# Altium schematic symbol library HW_ADHERENT_LANECTRL_R1.SchLib: 1635 symbols (part 30 of 31)
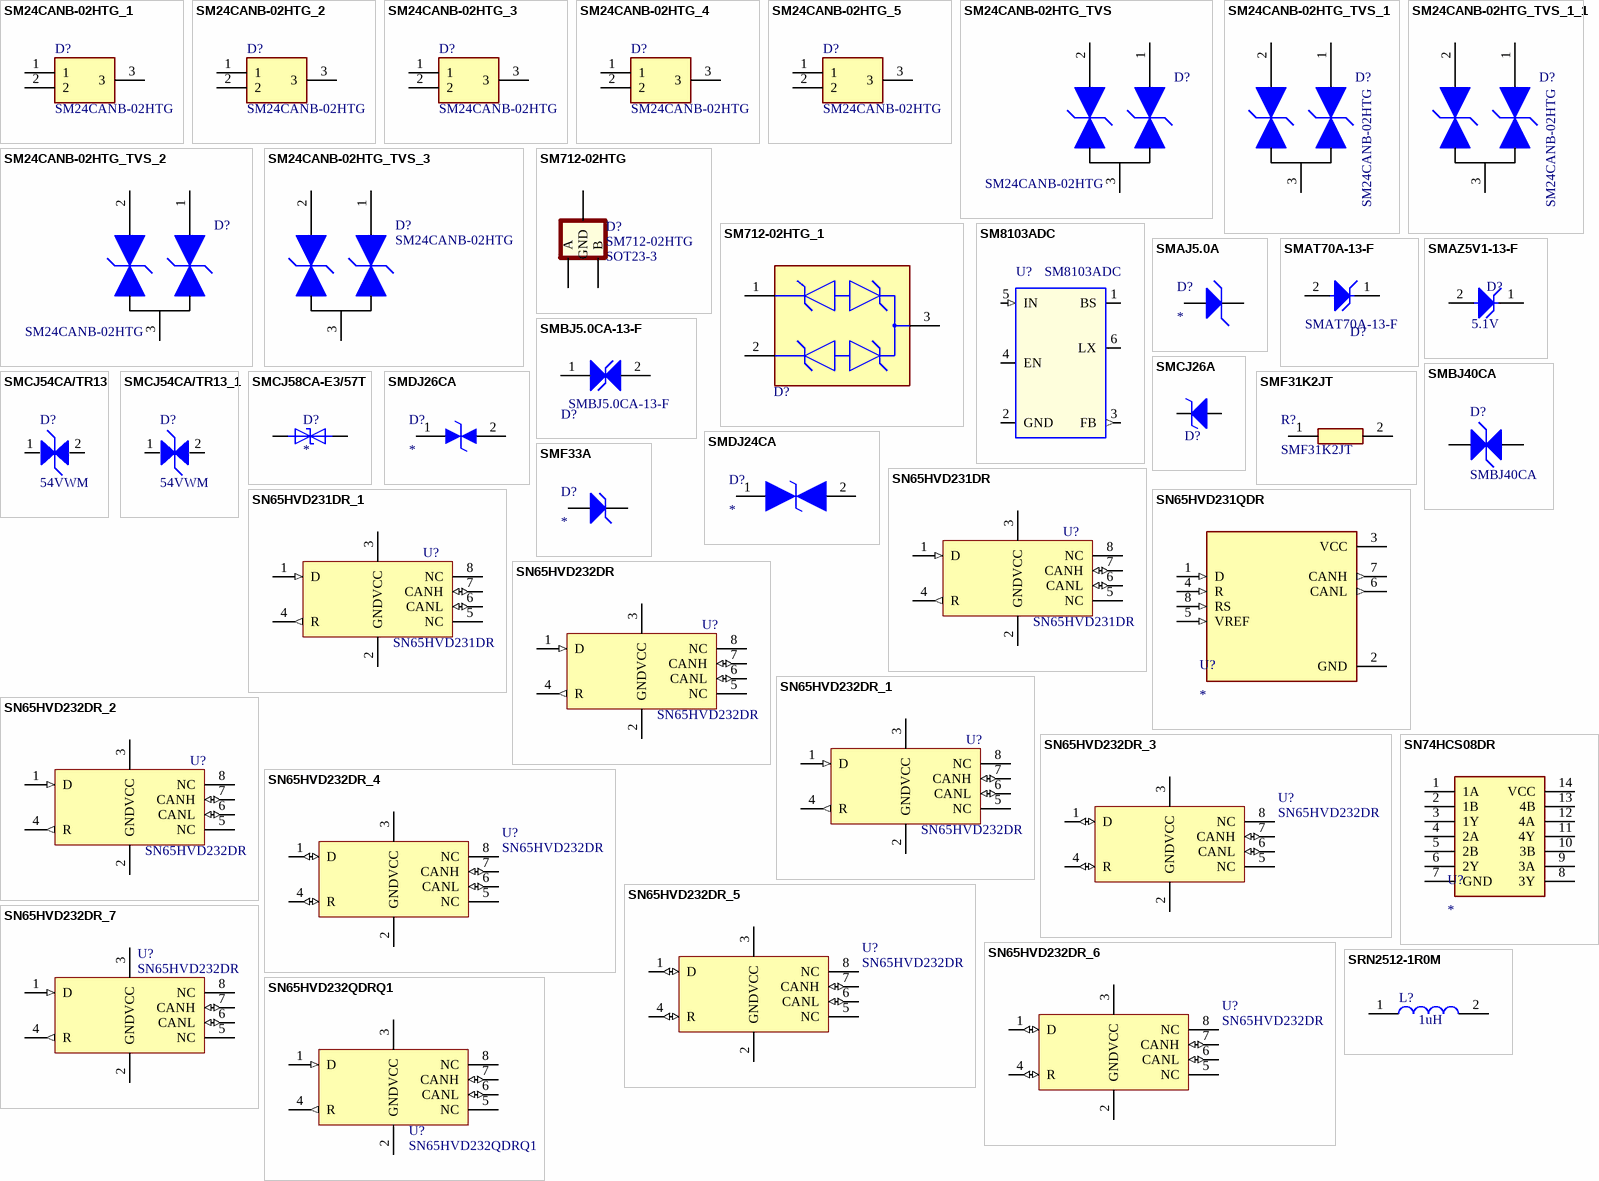
[diagram p80: symbols SM24CANB-02HTG_1 to SRN2512-1R0M]

## SRN2512-1R0M
designator L?, comment value 1uH  (hidden comment: FIXED IND 1UH 3.5A 57 MOHM SMD)
1 µH Semi-Shielded Drum Core, Wirewound Inductor 3.5 A 57mOhm Max 1008 (2520 Metric); Manufacturer Part Number: SRN2512-1R0M; Order Code: Digi: SRN2512-1R0MTR-ND; LCSC Manufacturer Part Number: SRN2512-1R0M; LCSC Part Number: C2041561
footprint SRN25121R0M
pins: 1, 2

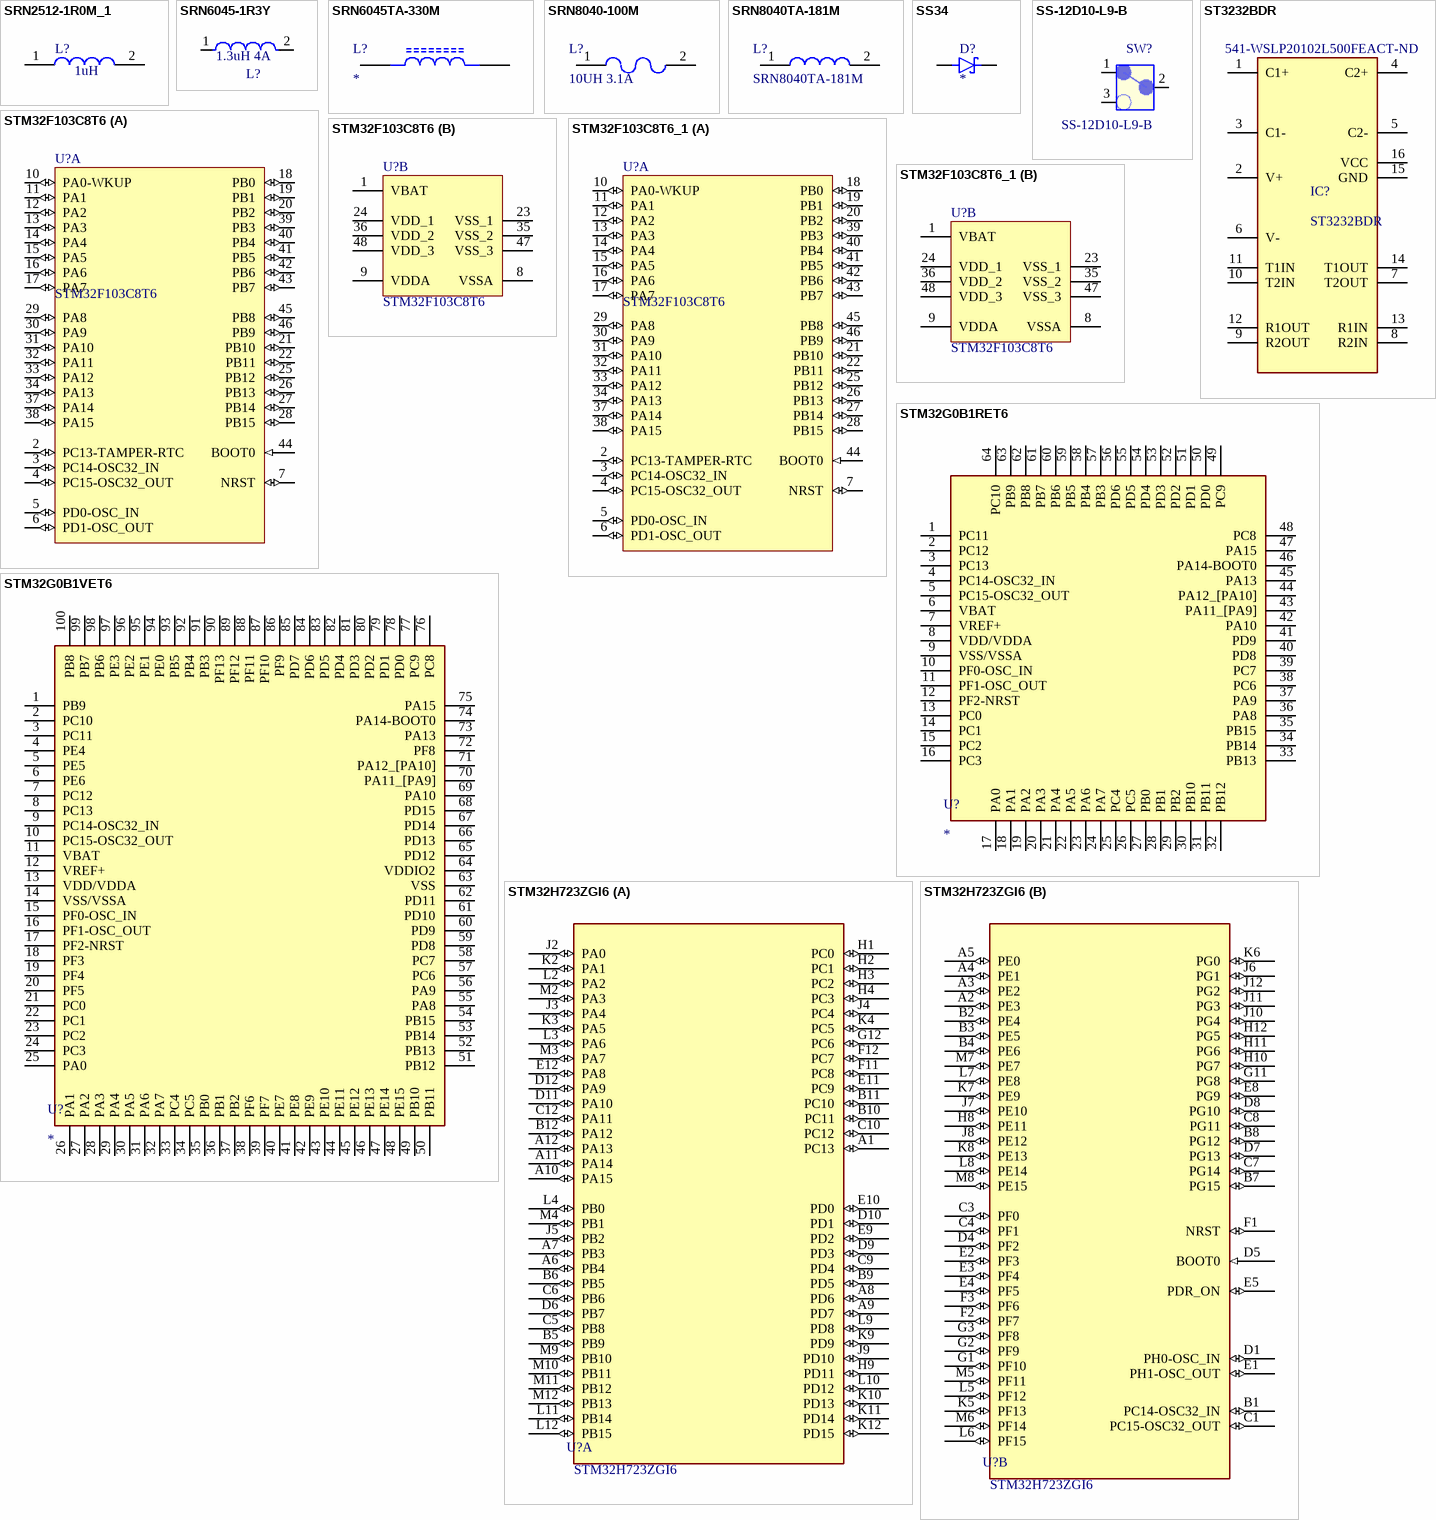
[diagram p44: symbols SRN2512-1R0M_1 to STM32H723ZGI6]

## SRN2512-1R0M_1
designator L?, comment value 1uH  (hidden comment: FIXED IND 1UH 3.5A 57 MOHM SMD)
1 µH Semi-Shielded Drum Core, Wirewound Inductor 3.5 A 57mOhm Max 1008 (2520 Metric); Manufacturer Part Number: SRN2512-1R0M; Order Code: Digi: SRN2512-1R0MTR-ND; LCSC Manufacturer Part Number: SRN2512-1R0M; LCSC Part Number: C2041561
footprint SRN25121R0M
pins: 1, 2

## SRN6045-1R3Y
designator L?, comment value 1.3uH 4A  (hidden comment: FIXED IND 1.3UH 4A 17 MOHM SMD)
1.3 µH Semi-Shielded Drum Core, Wirewound Inductor 4 A 17mOhm Max Nonstandard; Manufacturer Part Number: SRN6045-1R3Y; Order Code: DIGI: SRN6045-1R3YTR-ND
footprint Burns 6x6x4.5mm Inductor
pins: 1, 2

## SRN6045TA-330M
designator L?
33 µH Shielded Drum Core, Wirewound Inductor 1.8 A 145mOhm Nonstandard; Supplier: SRN6045TA-330MDKR-ND - Digi-Reel®
footprint IND_SRN6045TA-330M
pins: 1, 2

## SRN8040-100M
designator L?, comment 10UH 3.1A
10 µH Shielded Drum Core, Wirewound Inductor 3.1 A 50mOhm Max Nonstandard; Manufacturer_Name: Bourns; Manufacturer_Part_Number: SRN8040-100M; Datasheet Link: https://componentsearchengine.com/Datasheets/1/SRN8040-100M.pdf; Height: 4mm; Mouser Part Number: 652-SRN8040-100M; Mouser Price/Stock: https://www.mouser.co.uk/ProductDetail/Bourns/SRN8040-100M?qs=opBjA1TV901MvrktVUEKyA%3D%3D; Arrow Part Number: SRN8040-100M; Arrow Price/Stock: https://www.arrow.com/en/products/srn8040-100m/bourns?region=nac
footprint SRN8040100M
pins: 1, 2

## SRN8040TA-181M
designator L?
FIXED IND 180UH 910MA 490MOHM SM; Manufacturer_Name: Bourns; Datasheet Link: http://www.bourns.com/docs/Product-Datasheets/SRN8040TA.pdf; Height: 4.5mm; Manufacturer_Part_Number: SRN8040TA-181M; Mouser Part Number: 652-SRN8040TA-181M; Mouser Price/Stock: https://www.mouser.co.uk/ProductDetail/Bourns/SRN8040TA-181M?qs=Vt59ZOdFuWYBehGVtqRu4w%3D%3D; Arrow Part Number: SRN8040TA-181M; Arrow Price/Stock: https://www.arrow.com/en/products/srn8040ta-181m/bourns?region=nac
footprint INDPM8080X450N
pins: 1, 2

## SS34
designator D?
Diode Schottky 40 V 3A Surface Mount SMC (DO-214AB); MF: onsemi; MP: SS34; SnapEDA_Link: https://www.snapeda.com/parts/SS34/Onsemi/view-part/?ref=snap; Package: SMC-2 ON Semiconductor; Value: *; Check_prices: https://www.snapeda.com/parts/SS34/Onsemi/view-part/?ref=eda
footprint DIOM7959X265N
pins: A, C K

## SS-12D10-L9-B
designator SW?
slide switch,5A current,vertical; Manufacturer: XKB; Myir P/N: 21203.00010; PCB Footprint: SW-SS-12D10-L9-B; Part Type: Switch; Manufacturer P/N: SS-12D10-L9-B; Reserve Value: SS-12D10-L9-B; Datasheet: SS-12D10-XX-X.pdf
footprint sk_12f14
footprint SW-SS-12D10-L9-B
pins: 1, 2, 3

## ST3232BDR
designator IC?  Supplier Part Number 2: 541-WSLP20102L500FEACT-ND
CURRENT SENSE, RESISTOR, WSLP2010.00251%EAe3 | Vishay Dale WSLP20102L500FEA; Manufacturer: STMicroelectronics; Supplier 1: Digikey; Manufacturer Part Number: ST3232BDR; RoHS: Yes; Category: Interface ICs; Stock 1: 10000; Pricing 1: 2500=0.84878, 5000=0.81734, 12500=0.78591 (USD); ComponentLink1URL: https://datasheet.ciiva.com/5825/1766333-5825810.pdf?src-supplier=Farnell; ComponentLink1Description: https://datasheet.ciiva.com/5825/1766333-5825810.pdf?src-supplier=Farnell; ComponentLink2URL: https://datasheet.ciiva.com/16391/st3232bdr-16391763.pdf?src-supplier=Future+Electronics; ComponentLink2Description: https://datasheet.ciiva.com/16391/st3232bdr-16391763.pdf?src-supplier=Future+Electronics; ComponentLink3URL: https://datasheet.ciiva.com/1701/cd00002253-1701454.pdf?src-supplier=Digikey; ComponentLink3Description: https://datasheet.ciiva.com/1701/cd00002253-1701454.pdf?src-supplier=Digikey; ComponentLink4URL: https://datasheet.ciiva.com/1701/cd00002253-1701455.pdf?src-supplier=Digikey; ComponentLink4Description: https://datasheet.ciiva.com/1701/cd00002253-1701455.pdf?src-supplier=Digikey; ComponentLink5URL: https://datasheet.ciiva.com/1701/cd00002253-1701456.pdf?src-supplier=Digikey; ComponentLink5Description: https://datasheet.ciiva.com/1701/cd00002253-1701456.pdf?src-supplier=Digikey; Supplier Part Number 1: 497-6533-2-ND; Supplier 2: Digikey; Stock 2: 33384; Pricing 2: 1=0.82, 10=0.65, 25=0.5872, 50=0.5284, 100=0.4364, 250=0.41096, 500=0.33268, 1000=0.26907 (USD); RoHS Compliant: Yes
footprint SOIC127P600X175-16N - duplicate
pins: 1 C1+, 2 V+, 3 C1-, 4 C2+, 5 C2-, 6 V-, 7 T2OUT, 8 R2IN, 9 R2OUT, 10 T2IN, 11 T1IN, 12 R1OUT, 13 R1IN, 14 T1OUT, 15 GND, 16 VCC

## STM32F103C8T6
designator U?
ARM Cortex-M3 32-bit MCU, 64 KB Flash, 20 KB Internal RAM, 37 I/Os, 48-pin LQFP, -40 to 85 degC, Tray; Operating Frequency(F) (Processor speed) (MHz): 72; Supply Voltage(Vcc) min (V): 2; FLASH Size (Prog) (kB): 64; Internal RAM Size (kB): 20; I/Os (High Current): 37; A/D Converter: 2x12-bit (10 Channel); Core: ARM Cortex-M3; ComponentLink2Description: Datasheet; ComponentLink3Description: Package Specification; Mounting Technology: Surface Mount; ComponentLink3URL: http://www.st.com/st-web-ui/static/active/en/resource/technical/document/datasheet/DM00058181.pdf; DatasheetVersion: Rev. 16; ComponentLink1URL: http://www.st.com/web/en/home.html; ComponentLink1Description: Manufacturer URL; Manufacturer Part Number: STM32F103C8T6; Packing: Tray; PackageVersion: Rev. 6, 06/2013; PackageReference: LQFP48; PackageDescription: 48-Pin Low Profile Quad Flat Package, 7 x 7 mm Body, 0.5 mm Pitch; ComponentLink2URL: http://www.st.com/st-web-ui/static/active/en/resource/technical/document/datasheet/CD00161566.pdf; LCSC Part Number: C8734; LCSC Manufacturer Part Number: STM32F103C8T6
footprint STM-LQFP48_M
footprint STM-LQFP48_L
footprint STM-LQFP48_N
part A pins: 2 PC13-TAMPER-RTC (io) "PC13-TAMPER-RTC/PC13/TAMPER-RTC", 3 PC14-OSC32_IN (io) "PC14-OSC32_IN/PC14/OSC32_IN", 4 PC15-OSC32_OUT (io) "PC15-OSC32_OUT/PC15/OSC32_OUT", 5 PD0-OSC_IN (io) "PD0/OSC_IN", 6 PD1-OSC_OUT (io) "PD1/OSC_OUT", 7 NRST (io), 10 PA0-WKUP (io) "PA0-WKUP/PA0/WKUP/USART2_CTS/ADC12_IN0/TIM2_CH1_ETR", 11 PA1 (io) "PA1/USART2_RTS/ADC12_IN1/TIM2_CH2", 12 PA2 (io) "PA2/USART2_TX/ADC12_IN2/TIM2_CH3", 13 PA3 (io) "PA3/USART2_RX/ADC12_IN3/TIM2_CH4", 14 PA4 (io) "PA4/SPI1_NSS/USART2_CK/ADC12_IN4", 15 PA5 (io) "PA5/SPI1_SCK/ADC12_IN5", 16 PA6 (io) "PA6/SPI1_MISO/ADC12_IN6/TIM3_CH1/TIM1_BKIN", 17 PA7 (io) "PA7/SPI1_MOSI/ADC12_IN7/TIM3_CH2/TIM1_CH1N", 18 PB0 (io) "PB0/ADC12_IN8/TIM3_CH3/TIM1_CH2N", 19 PB1 (io) "PB1/ADC12_IN9/TIM3_CH4/TIM1_CH3N", 20 PB2 (io) "PB2/BOOT1", 21 PB10 (io) "PB10/I2C2_SCL/USART3_TX/TIM2_CH3", 22 PB11 (io) "PB11/I2C2_SDA/USART3_RX/TIM2_CH4", 25 PB12 (io) "PB12/SPI2_NSS/I2C2_SMBAl/USART3_CK/TIM1_BKIN", 26 PB13 (io) "PB13/SPI2_SCK/USART3_CTS/TIM1_CH1N", 27 PB14 (io) "PB14/SPI2_MISO/USART3_RTS/TIM1_CH2N", 28 PB15 (io) "PB15/SPI2_MOSI/TIM1_CH3N", 29 PA8 (io) "PA8/USART1_CK/TIM1_CH1/MCO", 30 PA9 (io) "PA9/USART1_TX/TIM1_CH2", 31 PA10 (io) "PA10/USART1_RX/TIM1_CH3", 32 PA11 (io) "PA11/USART1_CTS/CANRX/USBDM/TIM1_CH4", 33 PA12 (io) "PA12/USART1_RTS/CANTX/USBDP/TIM1_ETR", 34 PA13 (io) "PA13/JTMS/SWDIO", 37 PA14 (io) "PA14/JTCK/SWCLK", 38 PA15 (io) "PA15/JTDI/TIM2_CH1_ETR/SPI1_NSS", 39 PB3 (io) "PB3/JTDO/TIM2_CH2/TRACESWO/SPI1_SCK", 40 PB4 (io) "PB4/NJTRST/TIM3_CH1/SPI1_MISO", 41 PB5 (io) "PB5/I2C1_SMBAI/TIM3_CH2/SPI1_MOSI", 42 PB6 (io) "PB6/I2C1_SCL/TIM4_CH1/USART1_TX", 43 PB7 (io) "PB7/I2C1_SDA/TIM4_CH2/USART1_RX", 44 BOOT0 (in), 45 PB8 (io) "PB8/TIM4_CH3/I2C1_SCL/CANRX", 46 PB9 (io) "PB9/TIM4_CH4/I2C1_SDA/CANTX"
part B pins: 1 VBAT (power), 8 VSSA, 9 VDDA (power), 23 VSS_1, 24 VDD_1 (power), 35 VSS_2, 36 VDD_2 (power), 47 VSS_3, 48 VDD_3 (power)

## STM32F103C8T6_1
designator U?, comment STM32F103C8T6
ARM Cortex-M3 32-bit MCU, 64 KB Flash, 20 KB Internal RAM, 37 I/Os, 48-pin LQFP, -40 to 85 degC, Tray; Operating Frequency(F) (Processor speed) (MHz): 72; Supply Voltage(Vcc) min (V): 2; FLASH Size (Prog) (kB): 64; Internal RAM Size (kB): 20; I/Os (High Current): 37; A/D Converter: 2x12-bit (10 Channel); Core: ARM Cortex-M3; ComponentLink2Description: Datasheet; ComponentLink3Description: Package Specification; Mounting Technology: Surface Mount; ComponentLink3URL: http://www.st.com/st-web-ui/static/active/en/resource/technical/document/datasheet/DM00058181.pdf; DatasheetVersion: Rev. 16; ComponentLink1URL: http://www.st.com/web/en/home.html; ComponentLink1Description: Manufacturer URL; Manufacturer Part Number: STM32F103C8T6; Packing: Tray; PackageVersion: Rev. 6, 06/2013; PackageReference: LQFP48; PackageDescription: 48-Pin Low Profile Quad Flat Package, 7 x 7 mm Body, 0.5 mm Pitch; ComponentLink2URL: http://www.st.com/st-web-ui/static/active/en/resource/technical/document/datasheet/CD00161566.pdf; LCSC Part Number: C8734; LCSC Manufacturer Part Number: STM32F103C8T6
footprint STM-LQFP48_M
footprint STM-LQFP48_L
footprint STM-LQFP48_N
part A pins: 2 PC13-TAMPER-RTC (io) "PC13-TAMPER-RTC/PC13/TAMPER-RTC", 3 PC14-OSC32_IN (io) "PC14-OSC32_IN/PC14/OSC32_IN", 4 PC15-OSC32_OUT (io) "PC15-OSC32_OUT/PC15/OSC32_OUT", 5 PD0-OSC_IN (io) "PD0/OSC_IN", 6 PD1-OSC_OUT (io) "PD1/OSC_OUT", 7 NRST (io), 10 PA0-WKUP (io) "PA0-WKUP/PA0/WKUP/USART2_CTS/ADC12_IN0/TIM2_CH1_ETR", 11 PA1 (io) "PA1/USART2_RTS/ADC12_IN1/TIM2_CH2", 12 PA2 (io) "PA2/USART2_TX/ADC12_IN2/TIM2_CH3", 13 PA3 (io) "PA3/USART2_RX/ADC12_IN3/TIM2_CH4", 14 PA4 (io) "PA4/SPI1_NSS/USART2_CK/ADC12_IN4", 15 PA5 (io) "PA5/SPI1_SCK/ADC12_IN5", 16 PA6 (io) "PA6/SPI1_MISO/ADC12_IN6/TIM3_CH1/TIM1_BKIN", 17 PA7 (io) "PA7/SPI1_MOSI/ADC12_IN7/TIM3_CH2/TIM1_CH1N", 18 PB0 (io) "PB0/ADC12_IN8/TIM3_CH3/TIM1_CH2N", 19 PB1 (io) "PB1/ADC12_IN9/TIM3_CH4/TIM1_CH3N", 20 PB2 (io) "PB2/BOOT1", 21 PB10 (io) "PB10/I2C2_SCL/USART3_TX/TIM2_CH3", 22 PB11 (io) "PB11/I2C2_SDA/USART3_RX/TIM2_CH4", 25 PB12 (io) "PB12/SPI2_NSS/I2C2_SMBAl/USART3_CK/TIM1_BKIN", 26 PB13 (io) "PB13/SPI2_SCK/USART3_CTS/TIM1_CH1N", 27 PB14 (io) "PB14/SPI2_MISO/USART3_RTS/TIM1_CH2N", 28 PB15 (io) "PB15/SPI2_MOSI/TIM1_CH3N", 29 PA8 (io) "PA8/USART1_CK/TIM1_CH1/MCO", 30 PA9 (io) "PA9/USART1_TX/TIM1_CH2", 31 PA10 (io) "PA10/USART1_RX/TIM1_CH3", 32 PA11 (io) "PA11/USART1_CTS/CANRX/USBDM/TIM1_CH4", 33 PA12 (io) "PA12/USART1_RTS/CANTX/USBDP/TIM1_ETR", 34 PA13 (io) "PA13/JTMS/SWDIO", 37 PA14 (io) "PA14/JTCK/SWCLK", 38 PA15 (io) "PA15/JTDI/TIM2_CH1_ETR/SPI1_NSS", 39 PB3 (io) "PB3/JTDO/TIM2_CH2/TRACESWO/SPI1_SCK", 40 PB4 (io) "PB4/NJTRST/TIM3_CH1/SPI1_MISO", 41 PB5 (io) "PB5/I2C1_SMBAI/TIM3_CH2/SPI1_MOSI", 42 PB6 (io) "PB6/I2C1_SCL/TIM4_CH1/USART1_TX", 43 PB7 (io) "PB7/I2C1_SDA/TIM4_CH2/USART1_RX", 44 BOOT0 (in), 45 PB8 (io) "PB8/TIM4_CH3/I2C1_SCL/CANRX", 46 PB9 (io) "PB9/TIM4_CH4/I2C1_SDA/CANTX"
part B pins: 1 VBAT (power), 8 VSSA, 9 VDDA (power), 23 VSS_1, 24 VDD_1 (power), 35 VSS_2, 36 VDD_2 (power), 47 VSS_3, 48 VDD_3 (power)

## STM32G0B1RET6
designator U?
ARM® Cortex®-M0+ STM32G0 Microcontroller IC 32-Bit 64MHz 512KB (512K x 8) FLASH 64-LQFP (10x10); MPN: STM32G0B1RET6; Supplier: 497-STM32G0B1RET6-ND
footprint QFP50P1200X1200X160-64N
pins: 1 PC11, 2 PC12, 3 PC13, 4 PC14-OSC32_IN, 5 PC15-OSC32_OUT, 6 VBAT, 7 VREF+, 8 VDD/VDDA, 9 VSS/VSSA, 10 PF0-OSC_IN, 11 PF1-OSC_OUT, 12 PF2-NRST, 13 PC0, 14 PC1, 15 PC2, 16 PC3, 17 PA0, 18 PA1, 19 PA2, 20 PA3, 21 PA4, 22 PA5, 23 PA6, 24 PA7, 25 PC4, 26 PC5, 27 PB0, 28 PB1, 29 PB2, 30 PB10, 31 PB11, 32 PB12, 33 PB13, 34 PB14, 35 PB15, 36 PA8, 37 PA9, 38 PC6, 39 PC7, 40 PD8, 41 PD9, 42 PA10, 43 PA11_[PA9], 44 PA12_[PA10], 45 PA13, 46 PA14-BOOT0, 47 PA15, 48 PC8, 49 PC9, 50 PD0, 51 PD1, 52 PD2, 53 PD3, 54 PD4, 55 PD5, 56 PD6, 57 PB3, 58 PB4, 59 PB5, 60 PB6, 61 PB7, 62 PB8, 63 PB9, 64 PC10

## STM32G0B1VET6
designator U?
ARM Mikrodenetleyiciler - MCU Mainstream Arm Cortex-M0+ 32-bit MCU, up to 512KB Flash, 144KB RAM; MPN: STM32G0B1VET6
footprint QFP50P1600X1600X160-100N/STM32G0B1VET6
pins: 1 PB9, 2 PC10, 3 PC11, 4 PE4, 5 PE5, 6 PE6, 7 PC12, 8 PC13, 9 PC14-OSC32_IN, 10 PC15-OSC32_OUT, 11 VBAT, 12 VREF+, 13 VDD/VDDA, 14 VSS/VSSA, 15 PF0-OSC_IN, 16 PF1-OSC_OUT, 17 PF2-NRST, 18 PF3, 19 PF4, 20 PF5, 21 PC0, 22 PC1, 23 PC2, 24 PC3, 25 PA0, 26 PA1, 27 PA2, 28 PA3, 29 PA4, 30 PA5, 31 PA6, 32 PA7, 33 PC4, 34 PC5, 35 PB0, 36 PB1, 37 PB2, 38 PF6, 39 PF7, 40 PE7, 41 PE8, 42 PE9, 43 PE10, 44 PE11, 45 PE12, 46 PE13, 47 PE14, 48 PE15, 49 PB10, 50 PB11, 51 PB12, 52 PB13, 53 PB14, 54 PB15, 55 PA8, 56 PA9, 57 PC6, 58 PC7, 59 PD8, 60 PD9, 61 PD10, 62 PD11, 63 VSS, 64 VDDIO2, 65 PD12, 66 PD13, 67 PD14, 68 PD15, 69 PA10, 70 PA11_[PA9], 71 PA12_[PA10], 72 PF8, 73 PA13, 74 PA14-BOOT0, 75 PA15, 76 PC8, 77 PC9, 78 PD0, 79 PD1, 80 PD2, 81 PD3, 82 PD4, 83 PD5, 84 PD6, 85 PD7, 86 PF9, 87 PF10, 88 PF11, 89 PF12, 90 PF13, 91 PB3, 92 PB4, 93 PB5, 94 PE0, 95 PE1, 96 PE2, 97 PE3, 98 PB6, 99 PB7, 100 PB8

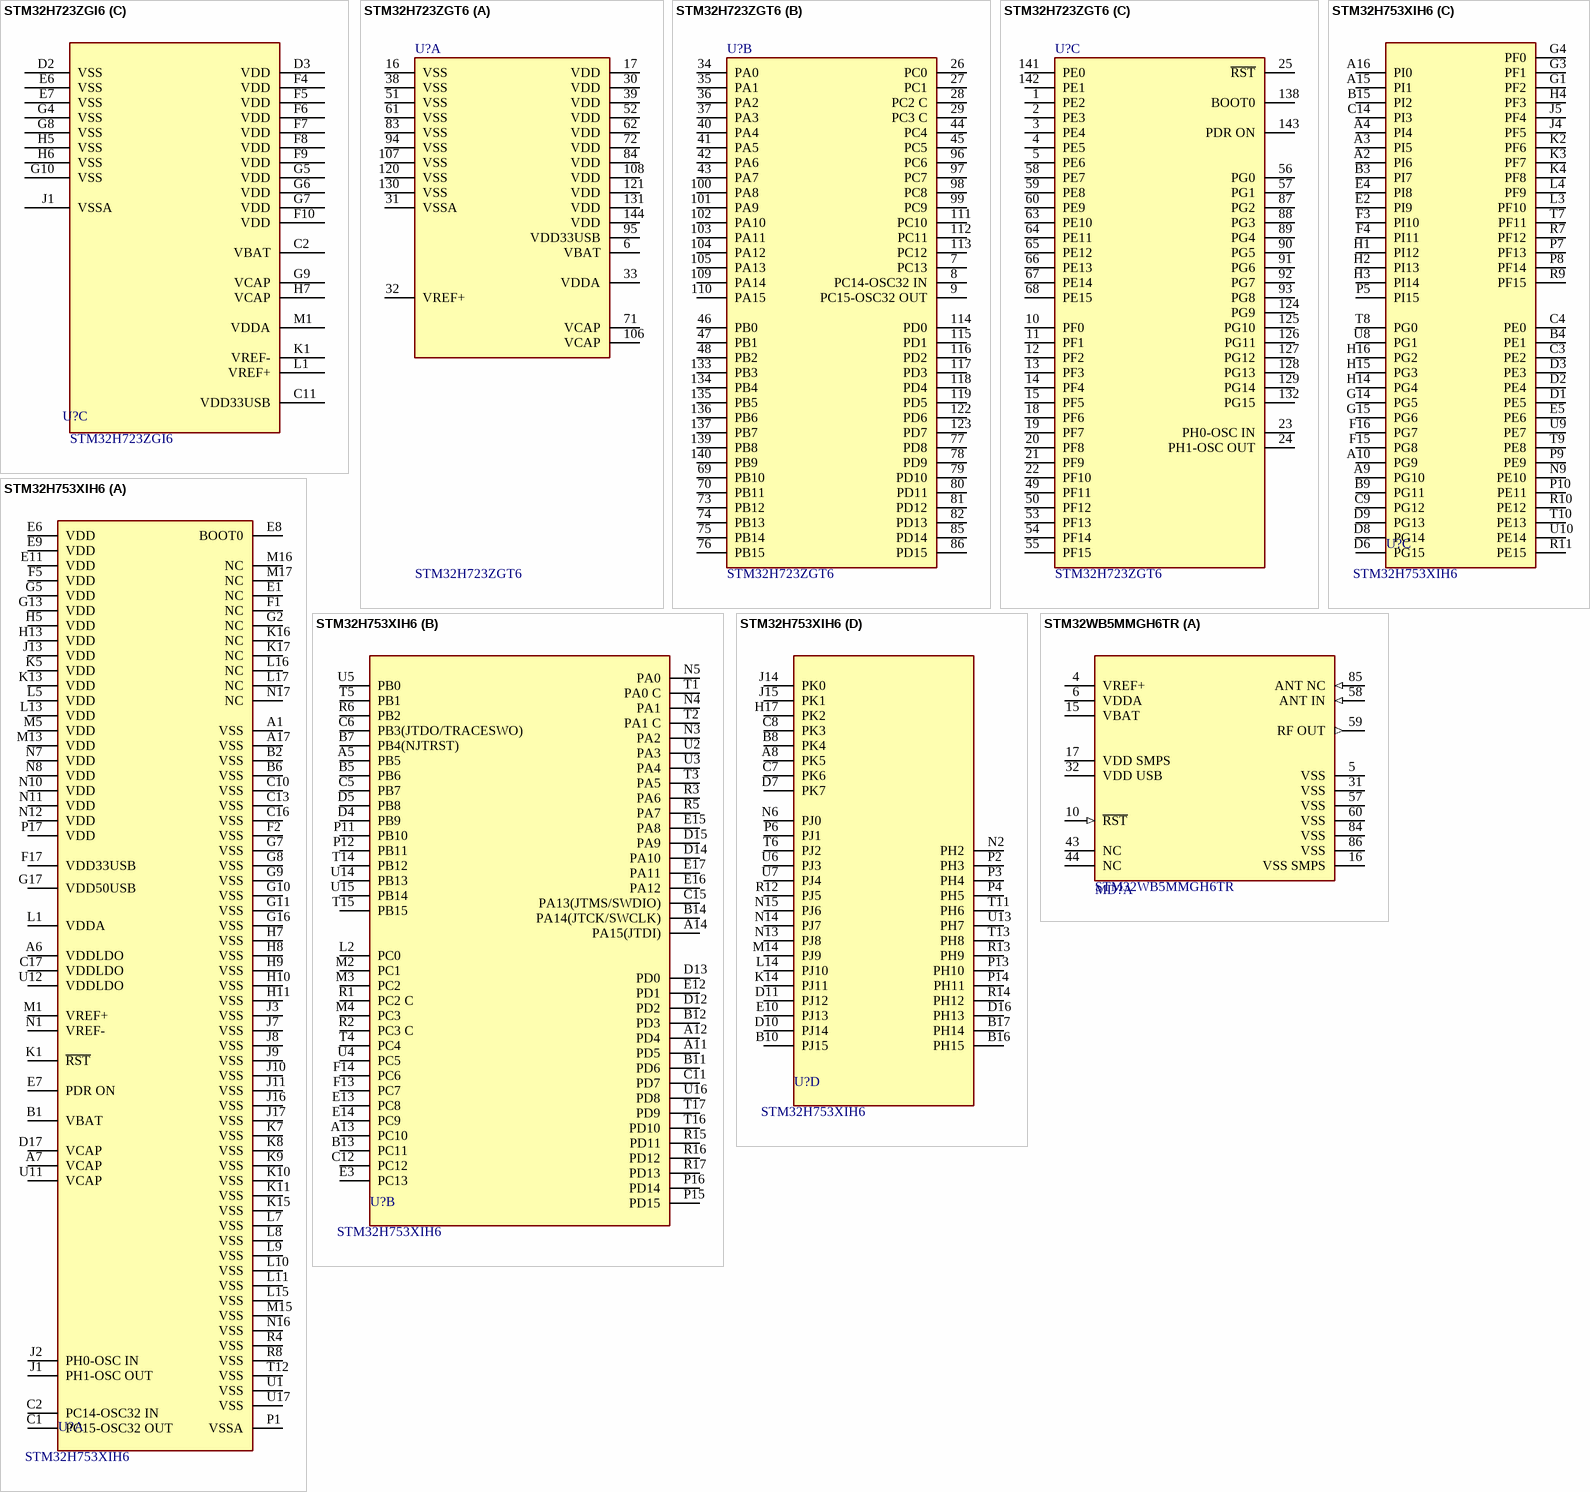
[diagram p45: symbols STM32H723ZGI6 to STM32WB5MMGH6TR]

## STM32H723ZGI6
designator U?, comment Manufacturer Part Number: STM32H723ZGI6  (hidden comment: IC MCU 32BIT 1MB FLASH 144UFBGA)
ARM® Cortex®-M7 STM32H7 Microcontroller IC 32-Bit Single-Core 550MHz 1MB (1M x 8) FLASH 144-UFBGA (7x7); Order Code: DIGI: 497-STM32H723ZGI6-ND
footprint UFBGA_144_7x7
part A pins: A1 PC13 (io), A6 PB4 (io), A7 PB3 (io), A8 PD6 (io), A9 PD7 (io), A10 PA15 (io), A11 PA14 (io), A12 PA13 (io), B5 PB9 (io), B6 PB5 (io), B9 PD5 (io), B10 PC11 (io), B11 PC10 (io), B12 PA12 (io), C5 PB8 (io), C6 PB6 (io), C9 PD4 (io), C10 PC12 (io), C12 PA11 (io), D6 PB7 (io), D9 PD3 (io), D10 PD1 (io), D11 PA10 (io), D12 PA9 (io), E9 PD2 (io), E10 PD0 (io), E11 PC9 (io), E12 PA8 (io), F11 PC8 (io), F12 PC7 (io), G12 PC6 (io), H1 PC0 (io), H2 PC1 (io), H3 PC2 (io), H4 PC3 (io), H9 PD11 (io), J2 PA0 (io), J3 PA4 (io), J4 PC4 (io), J5 PB2 (io), J9 PD10 (io), K2 PA1 (io), K3 PA5 (io), K4 PC5 (io), K9 PD9 (io), K10 PD13 (io), K11 PD14 (io), K12 PD15 (io), L2 PA2 (io), L3 PA6 (io), L4 PB0 (io), L9 PD8 (io), L10 PD12 (io), L11 PB14 (io), L12 PB15 (io), M2 PA3 (io), M3 PA7 (io), M4 PB1 (io), M9 PB10 (io), M10 PB11 (io), M11 PB12 (io), M12 PB13 (io)
part B pins: A2 PE3 (io), A3 PE2 (io), A4 PE1 (io), A5 PE0 (io), B1 PC14-OSC32_IN (io), B2 PE4 (io), B3 PE5 (io), B4 PE6 (io), B7 PG15 (io), B8 PG12 (io), C1 PC15-OSC32_OUT (io), C3 PF0 (io), C4 PF1 (io), C7 PG14 (io), C8 PG11 (io), D1 PH0-OSC_IN (io), D4 PF2 (io), D5 BOOT0 (in), D7 PG13 (io), D8 PG10 (io), E1 PH1-OSC_OUT (io), E2 PF3 (io), E3 PF4 (io), E4 PF5 (io), E5 PDR_ON (io), E8 PG9 (io), F1 NRST (io), F2 PF7 (io), F3 PF6 (io), G1 PF10 (io), G2 PF9 (io), G3 PF8 (io), G11 PG8 (io), H8 PE11 (io), H10 PG7 (io), H11 PG6 (io), H12 PG5 (io), J6 PG1 (io), J7 PE10 (io), J8 PE12 (io), J10 PG4 (io), J11 PG3 (io), J12 PG2 (io), K5 PF13 (io), K6 PG0 (io), K7 PE9 (io), K8 PE13 (io), L5 PF12 (io), L6 PF15 (io), L7 PE8 (io), L8 PE14 (io), M5 PF11 (io), M6 PF14 (io), M7 PE7 (io), M8 PE15 (io)
part C pins: C2 VBAT (power), C11 VDD33USB (power), D2 VSS (power), D3 VDD (power), E6 VSS (power), E7 VSS (power), F4 VDD (power), F5 VDD (power), F6 VDD (power), F7 VDD (power), F8 VDD (power), F9 VDD (power), F10 VDD (power), G4 VSS (power), G5 VDD (power), G6 VDD (power), G7 VDD (power), G8 VSS (power), G9 VCAP (power), G10 VSS (power), H5 VSS (power), H6 VSS (power), H7 VCAP (power), J1 VSSA (power), K1 VREF- (power), L1 VREF+ (power), M1 VDDA (power)

## STM32H723ZGT6
designator U?
ARM® Cortex®-M7 STM32H7 Microcontroller IC 32-Bit Single-Core 550MHz 1MB (1M x 8) FLASH 144-LQFP (20x20); Manufacturer Name: STMicroelectronics; Manufacturer Part Number: STM32H723ZGT6
footprint STMicroelectronics_LQFP144-1A_IPC_C
part A pins: 6 VBAT (power), 16 VSS (power), 17 VDD (power), 30 VDD (power), 31 VSSA (power), 32 VREF+ (power), 33 VDDA (power), 38 VSS (power), 39 VDD (power), 51 VSS (power), 52 VDD (power), 61 VSS (power), 62 VDD (power), 71 VCAP (power), 72 VDD (power), 83 VSS (power), 84 VDD (power), 94 VSS (power), 95 VDD33USB (power), 106 VCAP (power), 107 VSS (power), 108 VDD (power), 120 VSS (power), 121 VDD (power), 130 VSS (power), 131 VDD (power), 144 VDD (power)
part B pins: 7 PC13, 8 PC14-OSC32 IN, 9 PC15-OSC32 OUT, 26 PC0, 27 PC1, 28 PC2 C, 29 PC3 C, 34 PA0, 35 PA1, 36 PA2, 37 PA3, 40 PA4, 41 PA5, 42 PA6, 43 PA7, 44 PC4, 45 PC5, 46 PB0, 47 PB1, 48 PB2, 69 PB10, 70 PB11, 73 PB12, 74 PB13, 75 PB14, 76 PB15, 77 PD8, 78 PD9, 79 PD10, 80 PD11, 81 PD12, 82 PD13, 85 PD14, 86 PD15, 96 PC6, 97 PC7, 98 PC8, 99 PC9, 100 PA8, 101 PA9, 102 PA10, 103 PA11, 104 PA12, 105 PA13, 109 PA14, 110 PA15, 111 PC10, 112 PC11, 113 PC12, 114 PD0, 115 PD1, 116 PD2, 117 PD3, 118 PD4, 119 PD5, 122 PD6, 123 PD7, 133 PB3, 134 PB4, 135 PB5, 136 PB6, 137 PB7, 139 PB8, 140 PB9
part C pins: 1 PE2, 2 PE3, 3 PE4, 4 PE5, 5 PE6, 10 PF0, 11 PF1, 12 PF2, 13 PF3, 14 PF4, 15 PF5, 18 PF6, 19 PF7, 20 PF8, 21 PF9, 22 PF10, 23 PH0-OSC IN, 24 PH1-OSC OUT, 25 ~{RST}, 49 PF11, 50 PF12, 53 PF13, 54 PF14, 55 PF15, 56 PG0, 57 PG1, 58 PE7, 59 PE8, 60 PE9, 63 PE10, 64 PE11, 65 PE12, 66 PE13, 67 PE14, 68 PE15, 87 PG2, 88 PG3, 89 PG4, 90 PG5, 91 PG6, 92 PG7, 93 PG8, 124 PG9, 125 PG10, 126 PG11, 127 PG12, 128 PG13, 129 PG14, 132 PG15, 138 BOOT0, 141 PE0, 142 PE1, 143 PDR ON

## STM32H753XIH6
designator U?, comment Manufacturer Part Number: STM32H753XIH6  (hidden comment: IC MCU 32BIT 2MB FLASH TFBGA)
ARM® Cortex®-M7 STM32H7 Microcontroller IC 32-Bit Single-Core 480MHz 2MB (2M x 8) FLASH 240+25-TFBGA (14x14); Order Code: DIGI: 497-18567-ND
footprint STMicroelectronics_TFBGA240+25-A07U_IPC_A
footprint STMicroelectronics_TFBGA240+25-A07U_IPC_B
footprint STMicroelectronics_TFBGA240+25-A07U_IPC_C
footprint STMicroelectronics_TFBGA240+25-A07U_MFG
part A pins: A1 VSS, A6 VDDLDO, A7 VCAP, A17 VSS, B1 VBAT, B2 VSS, B6 VSS, C1 PC15-OSC32 OUT, C2 PC14-OSC32 IN, C10 VSS, C13 VSS, C16 VSS, C17 VDDLDO, D17 VCAP, E1 NC, E6 VDD, E7 PDR ON, E8 BOOT0, E9 VDD, E11 VDD, F1 NC, F2 VSS, F5 VDD, F17 VDD33USB, G2 NC, G5 VDD, G7 VSS, G8 VSS, G9 VSS, G10 VSS, G11 VSS, G13 VDD, G16 VSS, G17 VDD50USB, H5 VDD, H7 VSS, H8 VSS, H9 VSS, H10 VSS, H11 VSS, H13 VDD, J1 PH1-OSC OUT, J2 PH0-OSC IN, J3 VSS, J7 VSS, J8 VSS, J9 VSS, J10 VSS, J11 VSS, J13 VDD, J16 VSS, J17 VSS, K1 ~{RST}, K5 VDD, K7 VSS, K8 VSS, K9 VSS, K10 VSS, K11 VSS, K13 VDD, K15 VSS, K16 NC, K17 NC, L1 VDDA, L5 VDD, L7 VSS, L8 VSS, L9 VSS, L10 VSS, L11 VSS, L13 VDD, L15 VSS, L16 NC, L17 NC, M1 VREF+, M5 VDD, M13 VDD, M15 VSS, M16 NC, M17 NC, N1 VREF-, N7 VDD, N8 VDD, N10 VDD, N11 VDD, N12 VDD, N16 VSS, N17 NC, P1 VSSA, P17 VDD, R4 VSS, R8 VSS, T12 VSS, U1 VSS, U11 VCAP, U12 VDDLDO, U17 VSS
part B pins: A5 PB5, A11 PD5, A12 PD4, A13 PC10, A14 PA15(JTDI), B5 PB6, B7 PB4(NJTRST), B11 PD6, B12 PD3, B13 PC11, B14 PA14(JTCK/SWCLK), C5 PB7, C6 PB3(JTDO/TRACESWO), C11 PD7, C12 PC12, C15 PA13(JTMS/SWDIO), D4 PB9, D5 PB8, D12 PD2, D13 PD0, D14 PA10, D15 PA9, E3 PC13, E12 PD1, E13 PC8, E14 PC9, E15 PA8, E16 PA12, E17 PA11, F13 PC7, F14 PC6, L2 PC0, M2 PC1, M3 PC2, M4 PC3, N3 PA2, N4 PA1, N5 PA0, P11 PB10, P12 PB11, P15 PD15, P16 PD14, R1 PC2 C, R2 PC3 C, R3 PA6, R5 PA7, R6 PB2, R15 PD11, R16 PD12, R17 PD13, T1 PA0 C, T2 PA1 C, T3 PA5, T4 PC4, T5 PB1, T14 PB12, T15 PB15, T16 PD10, T17 PD9, U2 PA3, U3 PA4, U4 PC5, U5 PB0, U14 PB13, U15 PB14, U16 PD8
part C pins: A2 PI6, A3 PI5, A4 PI4, A9 PG10, A10 PG9, A15 PI1, A16 PI0, B3 PI7, B4 PE1, B9 PG11, B15 PI2, C3 PE2, C4 PE0, C9 PG12, C14 PI3, D1 PE5, D2 PE4, D3 PE3, D6 PG15, D8 PG14, D9 PG13, E2 PI9, E4 PI8, E5 PE6, F3 PI10, F4 PI11, F15 PG8, F16 PG7, G1 PF2, G3 PF1, G4 PF0, G14 PG5, G15 PG6, H1 PI12, H2 PI13, H3 PI14, H4 PF3, H14 PG4, H15 PG3, H16 PG2, J4 PF5, J5 PF4, K2 PF6, K3 PF7, K4 PF8, L3 PF10, L4 PF9, N9 PE10, P5 PI15, P7 PF13, P8 PF14, P9 PE9, P10 PE11, R7 PF12, R9 PF15, R10 PE12, R11 PE15, T7 PF11, T8 PG0, T9 PE8, T10 PE13, U8 PG1, U9 PE7, U10 PE14
part D pins: A8 PK5, B8 PK4, B10 PJ15, B16 PH15, B17 PH14, C7 PK6, C8 PK3, D7 PK7, D10 PJ14, D11 PJ12, D16 PH13, E10 PJ13, H17 PK2, J14 PK0, J15 PK1, K14 PJ11, L14 PJ10, M14 PJ9, N2 PH2, N6 PJ0, N13 PJ8, N14 PJ7, N15 PJ6, P2 PH3, P3 PH4, P4 PH5, P6 PJ1, P13 PH10, P14 PH11, R12 PJ5, R13 PH9, R14 PH12, T6 PJ2, T11 PH6, T13 PH8, U6 PJ3, U7 PJ4, U13 PH7

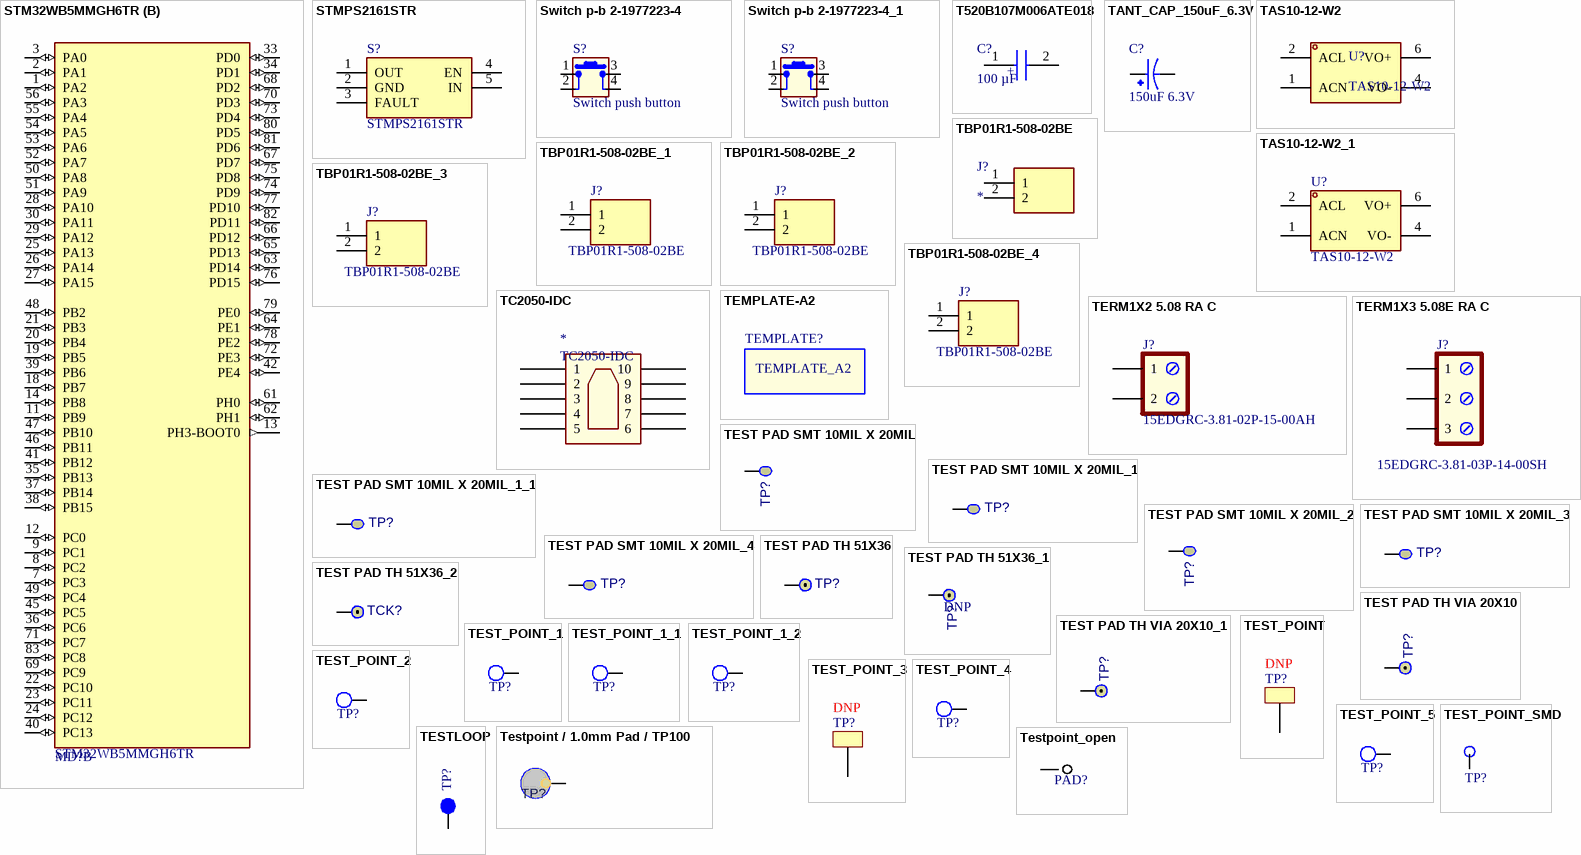
[diagram p46: symbols STM32WB5MMGH6TR to Testpoint_open]

## STM32WB5MMGH6TR
designator MD?, comment Manufacturer Part Number: STM32WB5MMGH6TR  (hidden comment: RF TXRX MODULE BT CHIP SMD)
802.15.4, Bluetooth Bluetooth v5.0, Thread, Zigbee® Transceiver Module 2.4GHz Integrated, Chip Surface Mount; Order Code: DIGI: 497-STM32WB5MMGH6TR-ND
footprint STMicroelectronics_STM32WB5MMGH6TR
part A pins: 4 VREF+ (power), 5 VSS (power), 6 VDDA (power), 10 ~{RST} (in), 15 VBAT (power), 16 VSS SMPS (power), 17 VDD SMPS (power), 31 VSS (power), 32 VDD USB (power), 43 NC, 44 NC, 57 VSS (power), 58 ANT IN (in), 59 RF OUT (out), 60 VSS (power), 84 VSS (power), 85 ANT NC (in), 86 VSS (power)
part B pins: 1 PA2 (io), 2 PA1 (io), 3 PA0 (io), 7 PC3 (io), 8 PC2 (io), 9 PC1 (io), 11 PB9 (io), 12 PC0 (io), 13 PH3-BOOT0 (out), 14 PB8 (io), 18 PB7 (io), 19 PB5 (io), 20 PB4 (io), 21 PB3 (io), 22 PC10 (io), 23 PC11 (io), 24 PC12 (io), 25 PA13 (io), 26 PA14 (io), 27 PA15 (io), 28 PA10 (io), 29 PA12 (io), 30 PA11 (io), 33 PD0 (io), 34 PD1 (io), 35 PB13 (io), 36 PC6 (io), 37 PB14 (io), 38 PB15 (io), 39 PB6 (io), 40 PC13 (io), 41 PB12 (io), 42 PE4 (io), 45 PC5 (io), 46 PB11 (io), 47 PB10 (io), 48 PB2 (io), 49 PC4 (io), 50 PA8 (io), 51 PA9 (io), 52 PA7 (io), 53 PA6 (io), 54 PA5 (io), 55 PA4 (io), 56 PA3 (io), 61 PH0 (io), 62 PH1 (io), 63 PD14 (io), 64 PE1 (io), 65 PD13 (io), 66 PD12 (io), 67 PD7 (io), 68 PD2 (io), 69 PC9 (io), 70 PD3 (io), 71 PC7 (io), 72 PE3 (io), 73 PD4 (io), 74 PD9 (io), 75 PD8 (io), 76 PD15 (io), 77 PD10 (io), 78 PE2 (io), 79 PE0 (io), 80 PD5 (io), 81 PD6 (io), 82 PD11 (io), 83 PC8 (io)

## STMPS2161STR
designator S?
Switch; Manufacturer_Name: STMicroelectronics; Datasheet Link: https://componentsearchengine.com/Datasheets/2/STMPS2161STR.pdf; Height: 1.45mm; Manufacturer_Part_Number: STMPS2161STR
footprint SOT95P280X145-5N
pins: 1 OUT, 2 GND, 3 FAULT, 4 EN, 5 IN

## Switch p-b 2-1977223-4
designator S?, comment value Switch push button  (hidden comment: 2-1977223-4)
SPST-NO; Manufacturer: TE Connectivity ALCOSWITCH Switches; Manufacturer Part Number: 2-1977223-4; Supplier Part Number: 450-2135-1-ND
footprint SMD 6.0X6.0X9.5MM
pins: 1, 2, 3, 4

## Switch p-b 2-1977223-4_1
designator S?, comment value Switch push button  (hidden comment: 2-1977223-4)
SPST-NO; Manufacturer: TE Connectivity ALCOSWITCH Switches; Manufacturer Part Number: 2-1977223-4; Supplier Part Number: 450-2135-1-ND
footprint SMD 6.0X6.0X9.5MM
pins: 1, 2, 3, 4

## T520B107M006ATE018
designator C?, comment 100 µF
100 µF Molded Tantalum Polymer Capacitor 6.3 V 1411 (3528 Metric) 18mOhm @ 100kHz; Manufacturer_Name: KEMET; Manufacturer_Part_Number: T520B107M006ATE018; Datasheet Link: https://content.kemet.com/datasheets/KEM_T2076_T52X-530.pdf; Height: 2mm; Mouser Part Number: 80-T520B107M6ATE18; Mouser Price/Stock: https://www.mouser.co.uk/ProductDetail/KEMET/T520B107M006ATE018?qs=OJGUyRWaYtMV0BsRKcV0Ug%3D%3D; Arrow Part Number: T520B107M006ATE018; Arrow Price/Stock: https://www.arrow.com/en/products/t520b107m006ate018/kemet-corporation?region=nac
footprint T520B
pins: 1 +, 2 -

## TANT_CAP_150uF_6.3V
designator C?, comment value 150uF 6.3V  (hidden comment: CAP TANT POLY 150UF 6.3V 1411)
150 µF Molded Tantalum Polymer Capacitor 6.3 V 1411 (3528 Metric) 70mOhm @ 100kHz; Manufacturer Part Number: 6TPG150M; Availability: Unavailable; Price: None; Package: None
footprint CAP_6TPG150M
pins: 1, 2

## TAS10-12-W2
designator U?
12V 830mA 85VAC~265VAC 100V~370V 10W Step-down type AC/DC-DC 85% Plugin,25x39mm AC-DC Power Modules ROHS; MF: TDPOWER; MP: TAS10-12-W2; Manufacturer Part Number: TAS10-12-W2; LCSC: C2687656; ComponentLink1Description: New link; ComponentLink1URL: https://www.lcsc.com/product-detail/Power-Modules_TDPOWER-TAS10-12-W2_C2687656.html
footprint TAS10-12-W2
pins: 1 ACN, 2 ACL, 4 VO-, 6 VO+

## TAS10-12-W2_1
designator U?, comment TAS10-12-W2
12V 830mA 85VAC~265VAC 100V~370V 10W Step-down type AC/DC-DC 85% Plugin,25x39mm AC-DC Power Modules ROHS; MF: TDPOWER; MP: TAS10-12-W2; Manufacturer Part Number: TAS10-12-W2; LCSC: C2687656; ComponentLink1Description: New link; ComponentLink1URL: https://www.lcsc.com/product-detail/Power-Modules_TDPOWER-TAS10-12-W2_C2687656.html
footprint TAS10-12-W2
pins: 1 ACN, 2 ACL, 4 VO-, 6 VO+

## TBP01R1-508-02BE
designator J?
Connector; Manufacturer_Name: CUI Devices; Manufacturer_Part_Number: TBP01R1-508-02BE; Datasheet Link: https://componentsearchengine.com/Datasheets/1/TBP01R1-508-02BE.pdf; Height: 8.5mm; Mouser Part Number: 490-TBP01R1-508-02BE; Mouser Price/Stock: https://www.mouser.co.uk/ProductDetail/CUI-Devices/TBP01R1-508-02BE?qs=PzGy0jfpSMuT8jxfc02aCw%3D%3D; Arrow Part Number: TBP01R1-508-02BE; Arrow Price/Stock: https://www.arrow.com/en/products/tbp01r1-508-02be/cui-devices?region=nac
footprint TBP01R150802BE
pins: 1, 2

## TBP01R1-508-02BE_1
designator J?, comment TBP01R1-508-02BE
Connector; Manufacturer_Name: CUI Devices; Datasheet Link: https://componentsearchengine.com/Datasheets/1/TBP01R1-508-02BE.pdf; Height: 8.5mm; Manufacturer_Part_Number: TBP01R1-508-02BE; Mouser Part Number: 490-TBP01R1-508-02BE; Mouser Price/Stock: https://www.mouser.co.uk/ProductDetail/CUI-Devices/TBP01R1-508-02BE?qs=PzGy0jfpSMuT8jxfc02aCw%3D%3D; Arrow Part Number: TBP01R1-508-02BE; Arrow Price/Stock: https://www.arrow.com/en/products/tbp01r1-508-02be/cui-devices?region=nac
footprint TBP01R150802BE
pins: 1, 2

## TBP01R1-508-02BE_2
designator J?, comment TBP01R1-508-02BE
Connector; Manufacturer_Name: CUI Devices; Datasheet Link: https://componentsearchengine.com/Datasheets/1/TBP01R1-508-02BE.pdf; Height: 8.5mm; Manufacturer_Part_Number: TBP01R1-508-02BE; Mouser Part Number: 490-TBP01R1-508-02BE; Mouser Price/Stock: https://www.mouser.co.uk/ProductDetail/CUI-Devices/TBP01R1-508-02BE?qs=PzGy0jfpSMuT8jxfc02aCw%3D%3D; Arrow Part Number: TBP01R1-508-02BE; Arrow Price/Stock: https://www.arrow.com/en/products/tbp01r1-508-02be/cui-devices?region=nac
footprint TBP01R150802BE
pins: 1, 2

## TBP01R1-508-02BE_3
designator J?, comment TBP01R1-508-02BE
Connector; Manufacturer_Name: CUI Devices; Datasheet Link: https://componentsearchengine.com/Datasheets/1/TBP01R1-508-02BE.pdf; Height: 8.5mm; Manufacturer_Part_Number: TBP01R1-508-02BE; Mouser Part Number: 490-TBP01R1-508-02BE; Mouser Price/Stock: https://www.mouser.co.uk/ProductDetail/CUI-Devices/TBP01R1-508-02BE?qs=PzGy0jfpSMuT8jxfc02aCw%3D%3D; Arrow Part Number: TBP01R1-508-02BE; Arrow Price/Stock: https://www.arrow.com/en/products/tbp01r1-508-02be/cui-devices?region=nac
footprint TBP01R150802BE
pins: 1, 2

## TBP01R1-508-02BE_4
designator J?, comment TBP01R1-508-02BE
Connector; Manufacturer_Name: CUI Devices; Datasheet Link: https://componentsearchengine.com/Datasheets/1/TBP01R1-508-02BE.pdf; Height: 8.5mm; Manufacturer_Part_Number: TBP01R1-508-02BE; Mouser Part Number: 490-TBP01R1-508-02BE; Mouser Price/Stock: https://www.mouser.co.uk/ProductDetail/CUI-Devices/TBP01R1-508-02BE?qs=PzGy0jfpSMuT8jxfc02aCw%3D%3D; Arrow Part Number: TBP01R1-508-02BE; Arrow Price/Stock: https://www.arrow.com/en/products/tbp01r1-508-02be/cui-devices?region=nac
footprint TBP01R150802BE
pins: 1, 2

## TC2050-IDC
designator *
footprint TC2050-IDC (Footprint not found)
pins: 1, 2, 3, 4, 5, 6, 7, 8, 9, 10

## TEMPLATE-A2
designator TEMPLATE?, comment TEMPLATE_A2
Manufacturer: MYIR; PCB Footprint: TEMPLATE-A2; Myir P/N: 21122.00032XN; Reserve Value: TEMPLATE_A2; Manufacturer P/N: TEMPLATE_A2; Part Type: Other
footprint TEMPLATE-A2
pins: 1

## TERM1X2 5.08 RA C
designator J?, comment 15EDGRC-3.81-02P-15-00AH
TERM BLOCK MALE 1X2POS 5.08MM SHRD4 RA THR; Manufacturer: DEGSON; Manufacturer Part Name: 15EDGRC-3.81-02P-15-00AH; Supplier: OZDISAN; Supplier No: 15EDGRC-3.81-02P-15-00AH; Value: 15EDGRC-3.81-02P-15-00AH
footprint 15EDGRC-3.81-02P-15-00AH
pins: 1, 2

## TERM1X3 5.08E RA C
designator J?, comment 15EDGRC-3.81-03P-14-00SH
TERM BLOCK MALE 1X3POS 5.08MM SHRD4 RA THR; Manufacturer: DEGSON; Manufacturer Part Name: 15EDGRC-3.81-03P-14-00SH; Supplier: OZDISAN; Supplier No: 15EDGRC-3.81-03P-14-00SH; Value: 15EDGRC-3.81-03P-14-00SH
footprint 15EDGRC-3.81-03P-14-00SH
pins: 1, 2, 3

## TEST PAD SMT 10MIL X 20MIL
designator TP?, comment Testpoint  (value not drawn)  (no BOM)
DNP: DNP; Value: Testpoint
footprint SMD_Ø1.5mm
pins: 1 P1

## TEST PAD SMT 10MIL X 20MIL_1
designator TP?, comment Testpoint  (value not drawn)  (no BOM)
DNP: DNP; Value: Testpoint
footprint SMD_Ø1.5mm
pins: 1 P1

## TEST PAD SMT 10MIL X 20MIL_1_1
designator TP?, comment Testpoint  (value not drawn)  (no BOM)
DNP: DNP; Value: Testpoint
footprint SMD_Ø1.5mm
pins: 1 P1

## TEST PAD SMT 10MIL X 20MIL_2
designator TP?, comment Testpoint  (value not drawn)  (no BOM)
DNP: DNP; Value: Testpoint
footprint SMD_1P5mm (Footprint not found)
pins: 1 P1

## TEST PAD SMT 10MIL X 20MIL_3
designator TP?, comment Testpoint  (value not drawn)  (no BOM)
DNP: DNP; Value: Testpoint
footprint SMD_Ø1.5mm
pins: 1 P1

## TEST PAD SMT 10MIL X 20MIL_4
designator TP?, comment Testpoint  (value not drawn)  (no BOM)
DNP: DNP; Value: Testpoint
footprint SMD_Ø1.5mm
pins: 1 P1

## TEST PAD TH 51X36
designator TP?, comment Testpoint  (value not drawn)  (no BOM)
DNP: DNP; Value: Testpoint
footprint SMD_1P5mm
pins: 1 P1

## TEST PAD TH 51X36_1
designator TP?, comment Populated: DNP  (hidden comment: Jumper)  (no BOM)
Test Pad TH 51X36; Manufacturer Part Number: none; Description_: TEST Pad, PIN sized, 51pad, 36 FHS; Manufacturer: none; Category: Non BOM Item; Type: Male; Mounting Type: Through Hole; Supplier 1: none; Supplier Part Number 1: none
footprint TP_PAD51D36 (TEST POINT, PLATED THRU HOLE PAD51_DRILL36)
pins: 1 P1

## TEST PAD TH 51X36_2
designator TCK?, comment Testpoint  (value not drawn)  (no BOM)
DNP: DNP; Value: Testpoint
footprint SMD_1P5mm (Footprint not found)
pins: 1 P1

## TEST PAD TH VIA 20X10
designator TP?, comment Testpoint  (value not drawn)  (no BOM)
DNP: DNP; Value: Testpoint
footprint SMD_Ø1.5mm
pins: 1 P1

## TEST PAD TH VIA 20X10_1
designator TP?, comment Testpoint  (value not drawn)  (no BOM)
DNP: DNP; Value: Testpoint
footprint SMD_1P5mm (Footprint not found)
pins: 1 P1

## TEST_POINT
designator TP?, comment Testpoint  (value not drawn)
Value: Testpoint; DNP: DNP
footprint SMD_Ø1.5mm
pins: 1 (power)

## TEST_POINT_1
designator TP?, comment TEST_POINT  (value not drawn)  (no BOM)
footprint TEST_POINT_TH
pins: 1

## TEST_POINT_1_1
designator TP?, comment TEST_POINT  (value not drawn)  (no BOM)
footprint TEST_POINT_TH
pins: 1

## TEST_POINT_1_2
designator TP?, comment TEST_POINT  (value not drawn)  (no BOM)
footprint TEST_POINT
footprint TEST_POINT_TH
pins: 1

## TEST_POINT_2
designator TP?, comment TEST_POINT  (value not drawn)  (no BOM)
footprint TEST_POINT
footprint TEST_POINT_TH
pins: 1

## TEST_POINT_3
designator TP?, comment Testpoint  (value not drawn)
Value: Testpoint; DNP: DNP
footprint SMD_1P5mm (Footprint not found)
pins: 1 (power)

## TEST_POINT_4
designator TP?, comment TEST_POINT  (value not drawn)  (no BOM)
footprint TEST_POINT
footprint TEST_POINT_TH
pins: 1

## TEST_POINT_5
designator TP?, comment TEST_POINT  (value not drawn)  (no BOM)
footprint TEST_POINT
footprint TEST_POINT_TH
pins: 1

## TEST_POINT_SMD
designator TP?, comment Test Point  (value not drawn)
footprint TEST_POINT_SMD
pins: 1

## TESTLOOP
designator TP?, comment tpad_020  (value not drawn)
TEST POINT PAD 0.5MM DIA SMT, NO PART TO ORDER; CLASS: IO; CAD_APPROVED: Yes; AGILE_PN: 211-77484; HEIGHT: 0.1MM; ROHS: Yes; PCB Footprint: tpad_020
footprint tpad_020
pins: 1 Pin1

## Testpoint / 1.0mm Pad / TP100
designator TP?, comment Testpoint  (value not drawn)  (no BOM)
Testpoint / 2.0mm Pad / TP200; Value: Testpoint; DNP: DNP
footprint SMD_1P5mm (Footprint not found)
pins: 1 TP "test point"

## Testpoint_open
designator PAD?, comment Testpoint  (value not drawn)
Rule: UNIONINDEX{}0[]RULEKIND{}FabricationTestpoint[]NETSCOPE{}AnyNet[]LAYERKIND{}SameLayer[]NAME{}Schematic Fabrication Testpoint Style[]SIDE{}2[]TESTPOINTUNDERCOMPONENT{}TRUE[]MINSIZE{}40mil[]MAXSIZE{}100mil[]PREFEREDSIZE{}60mil[]MINHOLESIZE{}31.4961mil[]MAXHOLESIZE{}39.3701mil[]PREFEREDHOLESIZE{}35.4331mil[]TESTPOINTGRID{}1mil[]ALLOWSIDEBOTTOM{}TRUE[]USEGRID{}TRUE[]GRIDTOLERANCE{}0.01mil[]UNIT{}Metric[]PcbType{}ProtelPcb; Value: Testpoint; DNP: DNP
footprint TP_TH_3MM
pins: 1

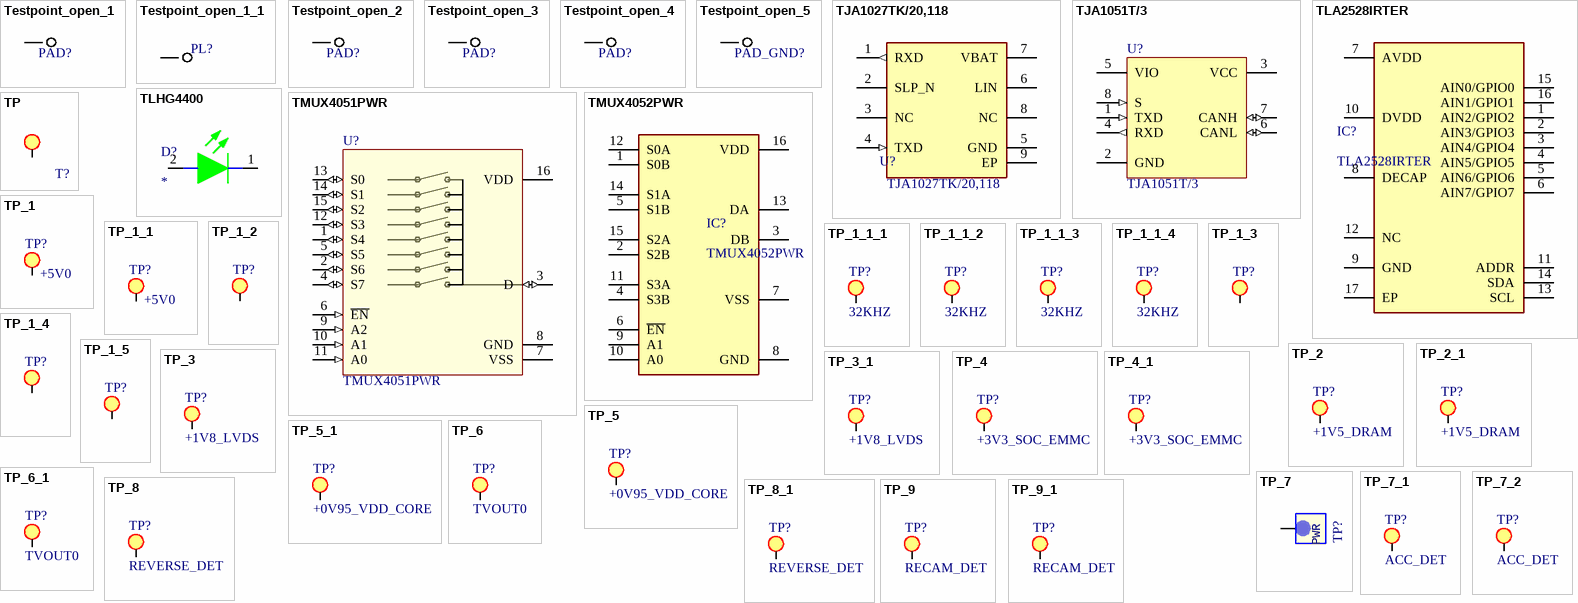
[diagram p47: symbols Testpoint_open_1 to TP_9_1]

## Testpoint_open_1
designator PAD?, comment Testpoint  (value not drawn)
Rule: UNIONINDEX{}0[]RULEKIND{}FabricationTestpoint[]NETSCOPE{}AnyNet[]LAYERKIND{}SameLayer[]NAME{}Schematic Fabrication Testpoint Style[]SIDE{}2[]TESTPOINTUNDERCOMPONENT{}TRUE[]MINSIZE{}40mil[]MAXSIZE{}100mil[]PREFEREDSIZE{}60mil[]MINHOLESIZE{}31.4961mil[]MAXHOLESIZE{}39.3701mil[]PREFEREDHOLESIZE{}35.4331mil[]TESTPOINTGRID{}1mil[]ALLOWSIDEBOTTOM{}TRUE[]USEGRID{}TRUE[]GRIDTOLERANCE{}0.01mil[]UNIT{}Metric[]PcbType{}ProtelPcb; Value: Testpoint; DNP: DNP
footprint TP_TH_3MM
pins: 1

## Testpoint_open_1_1
designator PL?, comment Testpoint  (value not drawn)
Rule: UNIONINDEX{}0[]RULEKIND{}FabricationTestpoint[]NETSCOPE{}AnyNet[]LAYERKIND{}SameLayer[]NAME{}Schematic Fabrication Testpoint Style[]SIDE{}2[]TESTPOINTUNDERCOMPONENT{}TRUE[]MINSIZE{}40mil[]MAXSIZE{}100mil[]PREFEREDSIZE{}60mil[]MINHOLESIZE{}31.4961mil[]MAXHOLESIZE{}39.3701mil[]PREFEREDHOLESIZE{}35.4331mil[]TESTPOINTGRID{}1mil[]ALLOWSIDEBOTTOM{}TRUE[]USEGRID{}TRUE[]GRIDTOLERANCE{}0.01mil[]UNIT{}Metric[]PcbType{}ProtelPcb; Value: Testpoint; DNP: DNP
footprint TP_TH_3MM
pins: 1

## Testpoint_open_2
designator PAD?, comment Testpoint  (value not drawn)
Rule: UNIONINDEX{}0[]RULEKIND{}FabricationTestpoint[]NETSCOPE{}AnyNet[]LAYERKIND{}SameLayer[]NAME{}Schematic Fabrication Testpoint Style[]SIDE{}2[]TESTPOINTUNDERCOMPONENT{}TRUE[]MINSIZE{}40mil[]MAXSIZE{}100mil[]PREFEREDSIZE{}60mil[]MINHOLESIZE{}31.4961mil[]MAXHOLESIZE{}39.3701mil[]PREFEREDHOLESIZE{}35.4331mil[]TESTPOINTGRID{}1mil[]ALLOWSIDEBOTTOM{}TRUE[]USEGRID{}TRUE[]GRIDTOLERANCE{}0.01mil[]UNIT{}Metric[]PcbType{}ProtelPcb; Value: Testpoint; DNP: DNP
footprint TP_TH_3MM
pins: 1

## Testpoint_open_3
designator PAD?, comment Testpoint  (value not drawn)
Rule: UNIONINDEX{}0[]RULEKIND{}FabricationTestpoint[]NETSCOPE{}AnyNet[]LAYERKIND{}SameLayer[]NAME{}Schematic Fabrication Testpoint Style[]SIDE{}2[]TESTPOINTUNDERCOMPONENT{}TRUE[]MINSIZE{}40mil[]MAXSIZE{}100mil[]PREFEREDSIZE{}60mil[]MINHOLESIZE{}31.4961mil[]MAXHOLESIZE{}39.3701mil[]PREFEREDHOLESIZE{}35.4331mil[]TESTPOINTGRID{}1mil[]ALLOWSIDEBOTTOM{}TRUE[]USEGRID{}TRUE[]GRIDTOLERANCE{}0.01mil[]UNIT{}Metric[]PcbType{}ProtelPcb; Value: Testpoint; DNP: DNP
footprint TP_TH_3MM
pins: 1

## Testpoint_open_4
designator PAD?, comment Testpoint  (value not drawn)
Rule: UNIONINDEX{}0[]RULEKIND{}FabricationTestpoint[]NETSCOPE{}AnyNet[]LAYERKIND{}SameLayer[]NAME{}Schematic Fabrication Testpoint Style[]SIDE{}2[]TESTPOINTUNDERCOMPONENT{}TRUE[]MINSIZE{}40mil[]MAXSIZE{}100mil[]PREFEREDSIZE{}60mil[]MINHOLESIZE{}31.4961mil[]MAXHOLESIZE{}39.3701mil[]PREFEREDHOLESIZE{}35.4331mil[]TESTPOINTGRID{}1mil[]ALLOWSIDEBOTTOM{}TRUE[]USEGRID{}TRUE[]GRIDTOLERANCE{}0.01mil[]UNIT{}Metric[]PcbType{}ProtelPcb; Value: Testpoint; DNP: DNP
footprint TP_TH_3MM
pins: 1

## Testpoint_open_5
designator PAD_GND?, comment Testpoint  (value not drawn)
Rule: UNIONINDEX{}0[]RULEKIND{}FabricationTestpoint[]NETSCOPE{}AnyNet[]LAYERKIND{}SameLayer[]NAME{}Schematic Fabrication Testpoint Style[]SIDE{}2[]TESTPOINTUNDERCOMPONENT{}TRUE[]MINSIZE{}40mil[]MAXSIZE{}100mil[]PREFEREDSIZE{}60mil[]MINHOLESIZE{}31.4961mil[]MAXHOLESIZE{}39.3701mil[]PREFEREDHOLESIZE{}35.4331mil[]TESTPOINTGRID{}1mil[]ALLOWSIDEBOTTOM{}TRUE[]USEGRID{}TRUE[]GRIDTOLERANCE{}0.01mil[]UNIT{}Metric[]PcbType{}ProtelPcb; Value: Testpoint; DNP: DNP
footprint TP_TH_3MM
pins: 1

## TJA1027TK/20,118
designator U?, comment Manufacturer Part Number: TJA1027TK/20,118  (hidden comment: IC TRANSCEIVER 1/1 8HVSON)
1/1 Transceiver LINbus 8-HVSON (3x3); Order Code: DIGI: 568-13773-2-ND
footprint HVSON-8
pins: 1 RXD (out), 2 SLP_N, 3 NC, 4 TXD (in), 5 GND, 6 LIN, 7 VBAT, 8 NC, 9 EP

## TJA1051T/3
designator U?
IC TRANSCEIVER HALF 1/1 8SO; Manufacturer: NXP USA Inc.; Manufacturer Part Number: TJA1051T/3,118; Supplier Part Number: 568-8684-1-ND
footprint SOIC-8 150mil (PN: 23LC1024T-I/SN)
pins: 1 TXD (in), 2 GND (power), 3 VCC (power), 4 RXD (out), 5 VIO (power), 6 CANL (io), 7 CANH (io), 8 S (in)

## TLA2528IRTER
designator IC?
12 Bit Analog to Digital Converter 8 Input 1 SAR 16-WQFN (3x3); Manufacturer_Name: Texas Instruments; Datasheet Link: https://www.ti.com/lit/ds/symlink/tla2528.pdf?ts=1596615195592&ref_url=https%253A%252F%252Fwww.ti.com%252Fproduct%252FTLA2528%253Futm_source%253Dgoogle%2526utm_medium%253Dcpc%2526utm_campaign%253Dasc-null-null-gpn_en-cpc-pf-google-eu%2526utm_content%253Dt; Height: 0.8mm; Manufacturer_Part_Number: TLA2528IRTER; Mouser Part Number: 595-TLA2528IRTER; Mouser Price/Stock: https://www.mouser.co.uk/ProductDetail/Texas-Instruments/TLA2528IRTER?qs=%252B6g0mu59x7KfRzJN7APgZw%3D%3D; Arrow Part Number: TLA2528IRTER; Arrow Price/Stock: https://www.arrow.com/en/products/tla2528irter/texas-instruments?region=nac
footprint QFN50P300X300X80-17N-D
pins: 1 AIN2/GPIO2, 2 AIN3/GPIO3, 3 AIN4/GPIO4, 4 AIN5/GPIO5, 5 AIN6/GPIO6, 6 AIN7/GPIO7, 7 AVDD, 8 DECAP, 9 GND, 10 DVDD, 11 ADDR, 12 NC, 13 SCL, 14 SDA, 15 AIN0/GPIO0, 16 AIN1/GPIO1, 17 EP

## TLHG4400
designator D?
Green 569nm LED Indication - Discrete 2.4V Radial; MPN: TLHG4400; Supplier: Vishay Semiconductor Opto Division
footprint TLHG4400
pins: 1 K, 2 A

## TMUX4051PWR
designator U?
IC SWITCH SP8T X 1 40OHM 16TSSOP; Manufacturer: Texas Instruments; Manufacturer Part Number: TMUX4051PWR; Supplier Part Number: 296-TMUX4051PWRCT-ND
footprint TSSOP-16 (CHECKED BY NAME- 24FEB2020, CREATED BY: JE 400 040A)
pins: 1 S4 (io), 2 S6 (io), 3 D (io), 4 S7 (io), 5 S5 (io), 6 ~{EN} (in), 7 VSS (power), 8 GND (power), 9 A2 (in), 10 A1 (in), 11 A0 (in), 12 S3 (io), 13 S0 (io), 14 S1 (io), 15 S2 (io), 16 VDD (power)

## TMUX4052PWR
designator IC?
2 Circuit IC Switch 4:1 240Ohm 16-TSSOP; Manufacturer_Name: Texas Instruments; Datasheet Link: https://www.ti.com/lit/ds/symlink/tmux4052.pdf?ts=1676371866155&ref_url=https%253A%252F%252Fwww.ti.com%252Fproduct%252FTMUX4052; Height: 1.2mm; Manufacturer_Part_Number: TMUX4052PWR; Mouser Part Number: 595-TMUX4052PWR; Mouser Price/Stock: https://www.mouser.co.uk/ProductDetail/Texas-Instruments/TMUX4052PWR?qs=amGC7iS6iy8OsL8GnYryxg%3D%3D; Arrow Part Number: TMUX4052PWR; Arrow Price/Stock: https://www.arrow.com/en/products/tmux4052pwr/texas-instruments?region=nac
footprint SOP65P640X120-16N
pins: 1 S0B, 2 S2B, 3 DB, 4 S3B, 5 S1B, 6 ~{EN}, 7 VSS, 8 GND, 9 A1, 10 A0, 11 S3A, 12 S0A, 13 DA, 14 S1A, 15 S2A, 16 VDD

## TP
designator T?, comment SMD  (value not drawn)
DESIG: testing PAD; FAB: NA; VAL: NOT POPULATED; PCB Footprint: test0_8-smd; REF: NA
footprint TEST_POINT_SMD
pins: 1 TP

## TP_1
designator TP?, comment +5V0
footprint TEST_POINT
footprint TEST_POINT_TH
pins: 1 TP

## TP_1_1
designator TP?, comment +5V0
footprint TEST_POINT
footprint TEST_POINT_TH
pins: 1 TP

## TP_1_1_1
designator TP?, comment 32KHZ
footprint TEST_POINT
footprint TEST_POINT_TH
pins: 1 TP

## TP_1_1_2
designator TP?, comment 32KHZ
footprint TEST_POINT
footprint TEST_POINT_TH
pins: 1 TP

## TP_1_1_3
designator TP?, comment 32KHZ
footprint TEST_POINT
footprint TEST_POINT_TH
pins: 1 TP

## TP_1_1_4
designator TP?, comment 32KHZ
footprint TEST_POINT
footprint TEST_POINT_TH
pins: 1 TP

## TP_1_2
designator TP?
footprint TEST_POINT
footprint TEST_POINT_TH
pins: 1 TP

## TP_1_3
designator TP?
footprint TEST_POINT
footprint TEST_POINT_TH
pins: 1 TP

## TP_1_4
designator TP?
footprint TEST_POINT
footprint TEST_POINT_TH
pins: 1 TP

## TP_1_5
designator TP?
footprint TEST_POINT
footprint TEST_POINT_TH
pins: 1 TP

## TP_2
designator TP?, comment +1V5_DRAM
footprint TEST_POINT
footprint TEST_POINT_TH
pins: 1 TP

## TP_2_1
designator TP?, comment +1V5_DRAM
footprint TEST_POINT
footprint TEST_POINT_TH
pins: 1 TP

## TP_3
designator TP?, comment +1V8_LVDS
footprint TEST_POINT
footprint TEST_POINT_TH
pins: 1 TP

## TP_3_1
designator TP?, comment +1V8_LVDS
footprint TEST_POINT
footprint TEST_POINT_TH
pins: 1 TP

## TP_4
designator TP?, comment +3V3_SOC_EMMC
footprint TEST_POINT
footprint TEST_POINT_TH
pins: 1 TP

## TP_4_1
designator TP?, comment +3V3_SOC_EMMC
footprint TEST_POINT
footprint TEST_POINT_TH
pins: 1 TP

## TP_5
designator TP?, comment +0V95_VDD_CORE
footprint TEST_POINT
footprint TEST_POINT_TH
pins: 1 TP

## TP_5_1
designator TP?, comment +0V95_VDD_CORE
footprint TEST_POINT
footprint TEST_POINT_TH
pins: 1 TP

## TP_6
designator TP?, comment TVOUT0
footprint TEST_POINT
footprint TEST_POINT_TH
pins: 1 TP

## TP_6_1
designator TP?, comment TVOUT0
footprint TEST_POINT
footprint TEST_POINT_TH
pins: 1 TP

## TP_7
designator TP?, comment SMD  (value not drawn)
VAL: NOT POPULATED; REF: NA; DESIG: testing PAD; PCB Footprint: HOLE-TP0_9S16; FAB: NA
footprint HOLE-TP0_9S16
pins: 1 TP
text: PWR

## TP_7_1
designator TP?, comment ACC_DET
footprint TEST_POINT
footprint TEST_POINT_TH
pins: 1 TP

## TP_7_2
designator TP?, comment ACC_DET
footprint TEST_POINT
footprint TEST_POINT_TH
pins: 1 TP

## TP_8
designator TP?, comment REVERSE_DET
footprint TEST_POINT
footprint TEST_POINT_TH
pins: 1 TP

## TP_8_1
designator TP?, comment REVERSE_DET
footprint TEST_POINT
footprint TEST_POINT_TH
pins: 1 TP

## TP_9
designator TP?, comment RECAM_DET
footprint TEST_POINT
footprint TEST_POINT_TH
pins: 1 TP

## TP_9_1
designator TP?, comment RECAM_DET
footprint TEST_POINT
footprint TEST_POINT_TH
pins: 1 TP

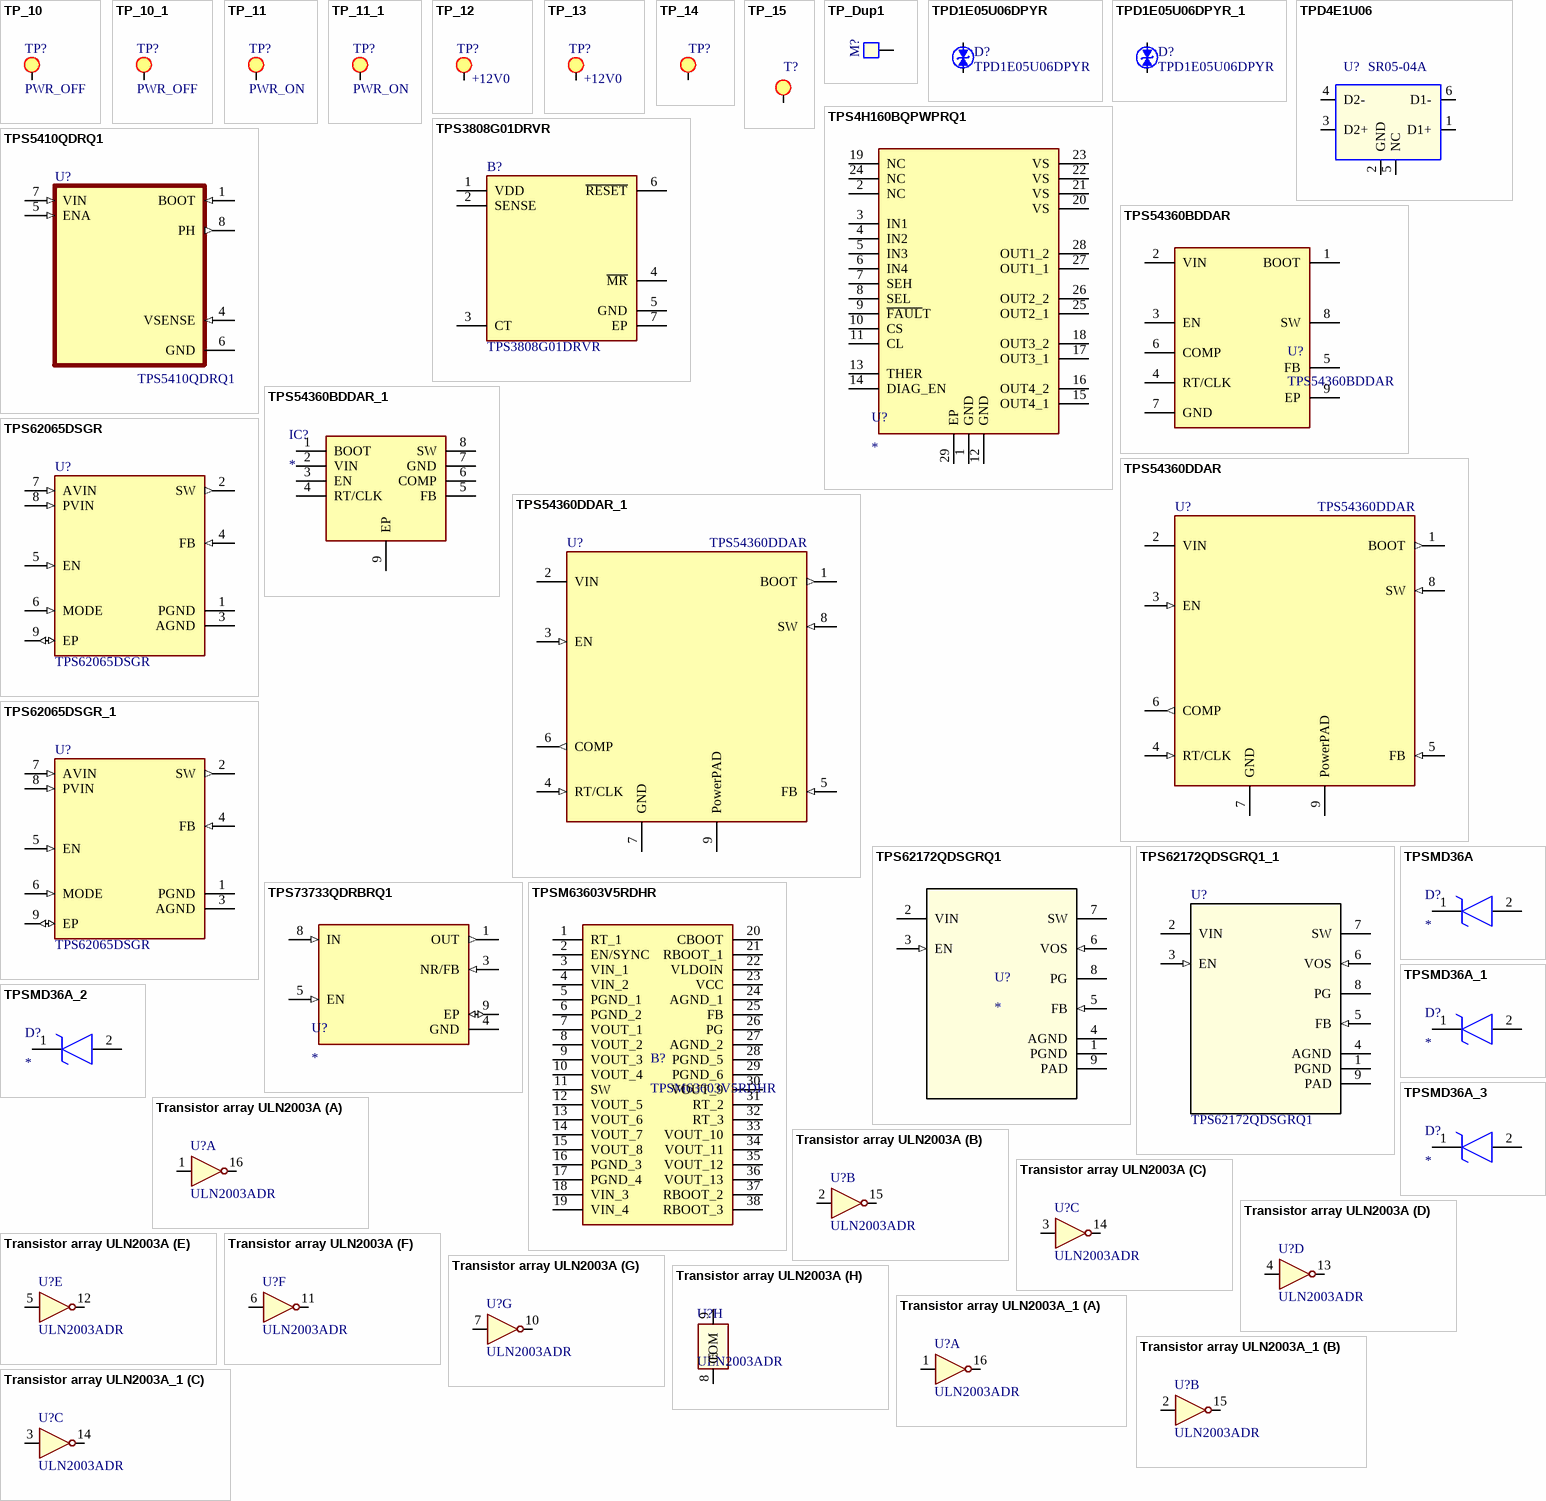
[diagram p48: symbols TP_10 to Transistor array ULN2003A_1]

## TP_10
designator TP?, comment PWR_OFF
footprint TEST_POINT
footprint TEST_POINT_TH
pins: 1 TP

## TP_10_1
designator TP?, comment PWR_OFF
footprint TEST_POINT
footprint TEST_POINT_TH
pins: 1 TP

## TP_11
designator TP?, comment PWR_ON
footprint TEST_POINT
footprint TEST_POINT_TH
pins: 1 TP

## TP_11_1
designator TP?, comment PWR_ON
footprint TEST_POINT
footprint TEST_POINT_TH
pins: 1 TP

## TP_12
designator TP?, comment +12V0
footprint TEST_POINT
footprint TEST_POINT_TH
pins: 1 TP

## TP_13
designator TP?, comment +12V0
footprint TEST_POINT
footprint TEST_POINT_TH
pins: 1 TP

## TP_14
designator TP?, comment Test Point  (value not drawn)  (no BOM)
footprint TEST_POINT
footprint TEST_POINT_TH
footprint TEST_POINT_SMD_0.5x3MM
pins: 1 TP

## TP_15
designator T?, comment SMD  (value not drawn)
DESIG: testing PAD; FAB: NA; VAL: NOT POPULATED; PCB Footprint: test0_8-smd; REF: NA
footprint TEST_POINT_SMD
pins: 1 TP

## TP_Dup1
designator M?, comment Mark Piont  (value not drawn)
PCB Footprint: id-board; VAL: NOT POPULATED; REF: NA; DESIG: testing PAD; FAB: NA
footprint TP
footprint id-board
pins: 1

## TPD1E05U06DPYR
designator D?, comment Manufacturer Part Number: TPD1E05U06DPYR  (hidden comment: TVS DIODE 5.5VWM 14VC 2X1SON)
14V Clamp 2.5A (8/20µs) Ipp Tvs Diode Surface Mount 2-X1SON (1x.60); Order Code: Digi: 296-39341-2-ND; LCSC Manufacturer Part Number: TPD1E05U06DPYR; LCSC Part Number: C436349
footprint D 0402(1005)
pins: 1 G "gate", 2 S "source"

## TPD1E05U06DPYR_1
designator D?, comment Manufacturer Part Number: TPD1E05U06DPYR  (hidden comment: TVS DIODE 5.5VWM 14VC 2X1SON)
14V Clamp 2.5A (8/20µs) Ipp Tvs Diode Surface Mount 2-X1SON (1x.60); Order Code: Digi: 296-39341-2-ND; LCSC Manufacturer Part Number: TPD1E05U06DPYR; LCSC Part Number: C436349
footprint D 0402(1005)
pins: 1 G "gate", 2 S "source"

## TPD4E1U06
designator U?, comment SR05-04A
IC,Quad-Channel,High-Speed ESD Protection Device,SMD,SOT23-6,UN; RP1 Manufacturer P/N: TPD4E1U06DBVR; RP1 Myir P/N: 20114.00004; Myir P/N: 20114.00013; Datasheet: SR05-04A.pdf; Reserve Value: SR05-04A; Manufacturer P/N: SR05-04A; Manufacturer: UN; Part Type: Protection; PCB Footprint: SOT23-6
footprint SOT23-6
pins: 1 D1+, 2 GND, 3 D2+, 4 D2-, 5 NC, 6 D1-

## TPS4H160BQPWPRQ1
designator U?
40-V, 160-mΩ, 4-ch automotive smart high-side switch with adjustable current limit; MPN: TPS4H160-Q1; Supplier: 595-TPS4H160BQPWPRQ1
footprint SOP65P640X120-29N
pins: 1 GND, 2 NC, 3 IN1, 4 IN2, 5 IN3, 6 IN4, 7 SEH, 8 SEL, 9 ~{FAUL}T, 10 CS, 11 CL, 12 GND, 13 THER, 14 DIAG_EN, 15 OUT4_1, 16 OUT4_2, 17 OUT3_1, 18 OUT3_2, 19 NC, 20 VS, 21 VS, 22 VS, 23 VS, 24 NC, 25 OUT2_1, 26 OUT2_2, 27 OUT1_1, 28 OUT1_2, 29 EP

## TPS3808G01DRVR
designator B?
Low-quiescent current supervisor with programmable-delay and manual reset; Manufacturer_Name: Texas Instruments; Geometry.Height: 0.8mm; Manufacturer Part Number: TPS3808G01DRVR; Mouser Part Number: 595-TPS3808G01DRVR; Mouser Price/Stock: https://www.mouser.co.uk/ProductDetail/Texas-Instruments/TPS3808G01DRVR?qs=nRD1PKnFC2FrHLBhWUTt4Q%3D%3D; Arrow Part Number: TPS3808G01DRVR; Arrow Price/Stock: https://www.arrow.com/en/products/tps3808g01drvr/texas-instruments?region=nac; Datasheet Link: http://www.ti.com/lit/gpn/tps3808
footprint SON65P200X200X80-7N
pins: 1 VDD, 2 SENSE, 3 CT, 4 ~{MR}, 5 GND, 6 ~{RESET}, 7 EP

## TPS5410QDRQ1
designator U?, comment Manufacturer Part Number: TPS5410QDRQ1  (hidden comment: IC REG BUCK ADJUSTABLE 1A 8SOIC)
Automotive 5.5V to 36V, 500kHz Fixed Frequency 1A Buck Converter 8-SOIC -40 to 125; MF: Texas Instruments; Value: *; Arrow_Electronics-Purchase-URL: https://snapeda.com/shop?store=Arrow+Electronics&id=1232664; Price: None; Availability: Good; Mouser-Purchase-URL: https://snapeda.com/shop?store=Mouser&id=1232664; Texas_Instruments-Purchase-URL: https://snapeda.com/shop?store=Texas+Instruments&id=1232664; SnapEDA_Link: https://www.snapeda.com/parts/TPS5410QDRQ1/Texas%20Instruments/view-part/1232664/?ref=snap; Package: SOIC-8 Texas Instruments
footprint SOIC127P599X175-8N
pins: 1 BOOT (in), 4 VSENSE (in), 5 ENA (in), 6 GND (power), 7 VIN (in), 8 PH (out)

## TPS54360BDDAR
designator U?
60-V input, 3.5-A, step-down DC/DC converter with Eco-Mode™ 8-SO PowerPAD -40 to 150; Manufacturer: Texas Instruments; Supplier 1: Digikey; Manufacturer Part Number: TPS54360BDDAR; RoHS: Yes; Category: Voltage Regulators - Switching; Stock 1: 2500; Pricing 1: 2500=2.34003 (USD); ComponentLink1URL: http://www.ti.com/general/docs/suppproductinfo.tsp?distId=10&amp;gotoUrl=http%3A%2F%2Fwww.ti.com%2Flit%2Fgpn%2Ftps54360b&src-supplier=Digikey; ComponentLink1Description: http://www.ti.com/general/docs/suppproductinfo.tsp?distId=10&amp;gotoUrl=http%3A%2F%2Fwww.ti.com%2Flit%2Fgpn%2Ftps54360b&src-supplier=Digikey; Supplier Part Number 1: 296-TPS54360BDDARTR-ND
footprint SOIC127P600X170-9N
pins: 1 BOOT, 2 VIN, 3 EN, 4 RT/CLK, 5 FB, 6 COMP, 7 GND, 8 SW, 9 EP

## TPS54360BDDAR_1
designator IC?
Integrated Circuit; Manufacturer_Name: Texas Instruments; Manufacturer_Part_Number: TPS54360BDDAR; Datasheet Link: http://www.ti.com/lit/gpn/TPS54360B; Height: 1.7mm; Mouser Part Number: 595-TPS54360BDDAR; Mouser Price/Stock: https://www.mouser.co.uk/ProductDetail/Texas-Instruments/TPS54360BDDAR?qs=l7cgNqFNU1iKlQpZ394odQ%3D%3D; Arrow Part Number: TPS54360BDDAR; Arrow Price/Stock: https://www.arrow.com/en/products/tps54360bddar/texas-instruments?region=nac
footprint SOIC127P600X170-9N
pins: 1 BOOT, 2 VIN, 3 EN, 4 RT/CLK, 5 FB, 6 COMP, 7 GND, 8 SW, 9 EP

## TPS54360DDAR
designator U?
Buck, Split Rail Switching Regulator IC Positive Adjustable 0.8V 1 Output 3.5A 8-PowerSOIC (0.154", 3.90mm Width); Order Code: Digi: 296-37676-2-ND; LCSC Manufacturer Part Number: TPS54360DDAR; LCSC Part Number: C44377; Manufacturer Part Number: TPS54360DDAR
footprint S8E_LT
pins: 1 BOOT (out), 2 VIN (power), 3 EN (in), 4 RT/CLK (in), 5 FB (in), 6 COMP (out), 7 GND (power), 8 SW (in), 9 PowerPAD (power)

## TPS54360DDAR_1
designator U?, comment TPS54360DDAR
Buck, Split Rail Switching Regulator IC Positive Adjustable 0.8V 1 Output 3.5A 8-PowerSOIC (0.154", 3.90mm Width); Order Code: Digi: 296-37676-2-ND; LCSC Manufacturer Part Number: TPS54360DDAR; LCSC Part Number: C44377; Manufacturer Part Number: TPS54360DDAR
footprint S8E_LT
pins: 1 BOOT (out), 2 VIN (power), 3 EN (in), 4 RT/CLK (in), 5 FB (in), 6 COMP (out), 7 GND (power), 8 SW (in), 9 PowerPAD (power)

## TPS62065DSGR
designator U?, comment Manufacturer Part Number: TPS62065DSGR  (hidden comment: IC REG BUCK ADJUSTABLE 2A 8WSON)
Buck Switching Regulator IC Positive Adjustable 0.8V 1 Output 2A 8-WFDFN Exposed Pad; Order Code: Digi: 296-39441-2-ND; LCSC Manufacturer Part Number: TPS62065DSGR; LCSC Part Number: C398352
footprint SON50P200X200X80-9N
pins: 1 PGND (power), 2 SW (out), 3 AGND (power), 4 FB (in), 5 EN (in), 6 MODE (in), 7 AVIN (in), 8 PVIN (in), 9 EP (io)

## TPS62065DSGR_1
designator U?, comment Manufacturer Part Number: TPS62065DSGR  (hidden comment: IC REG BUCK ADJUSTABLE 2A 8WSON)
Buck Switching Regulator IC Positive Adjustable 0.8V 1 Output 2A 8-WFDFN Exposed Pad; Order Code: Digi: 296-39441-2-ND; LCSC Manufacturer Part Number: TPS62065DSGR; LCSC Part Number: C398352
footprint SON50P200X200X80-9N
pins: 1 PGND (power), 2 SW (out), 3 AGND (power), 4 FB (in), 5 EN (in), 6 MODE (in), 7 AVIN (in), 8 PVIN (in), 9 EP (io)

## TPS62172QDSGRQ1
designator U?
No Description Available; Mfr_Name: Texas Instruments; PartNumber: TPS62172QDSGRQ1; Alternate_PartNumber: TPS62172QDSGTQ1; CompType: IC; TYPE: TYPE; RefDes: RefDes; Application_BuildNumber: *; PackageReference: DSG0008A; MountType: SMT; RoHS: Y; Manufacturer: Texas Instruments
footprint DSG0008A
pins: 1 PGND (power), 2 VIN (power), 3 EN (in), 4 AGND (power), 5 FB (in), 6 VOS (in), 7 SW (power), 8 PG (hiz), 9 PAD (power)